# Altium schematic symbol library st-mpu.SchLib: 15 symbols (part 1 of 2)
Pins are listed as number, name and electrical type; pins without a type are passive.

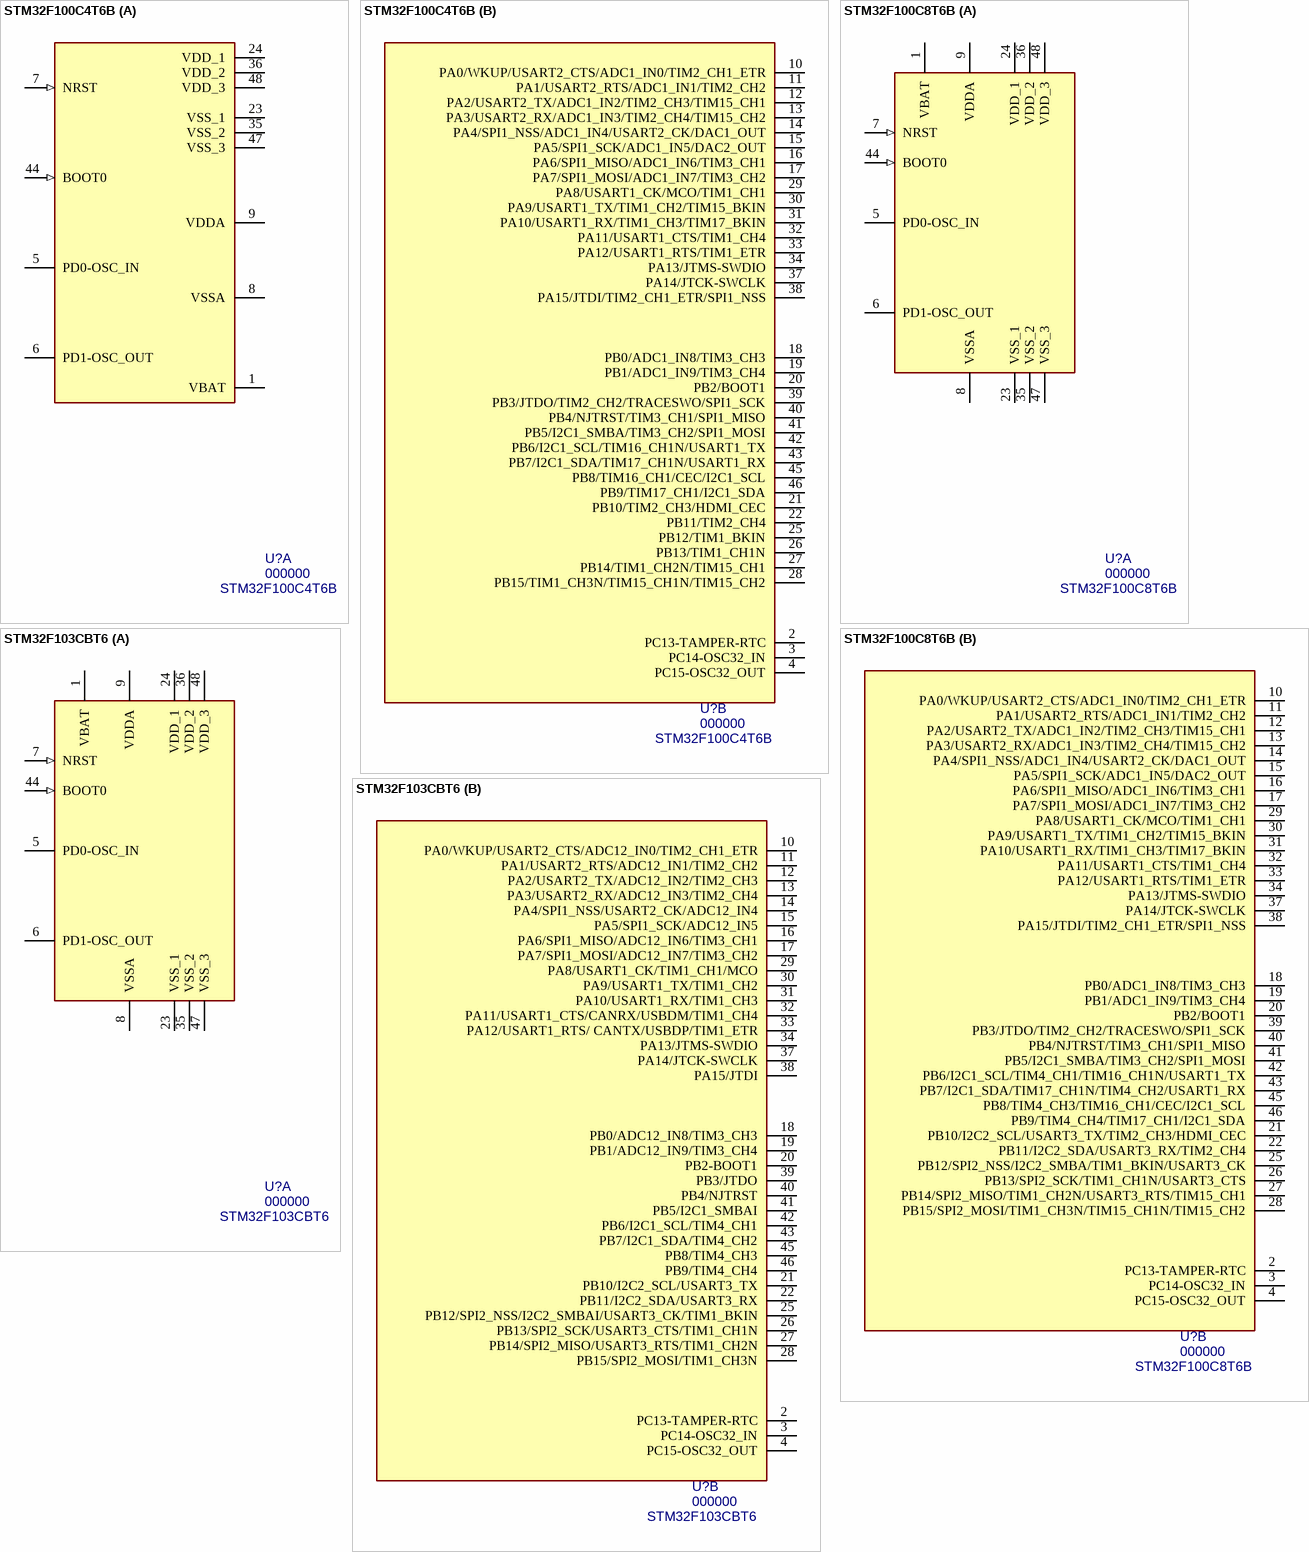
[diagram p0: symbols STM32F100C4T6B to STM32F103CBT6]

## STM32F100C4T6B
designator U?, comment 000000  value STM32F100C4T6B
ARM Cortex-M3,  32KB Flash, 4KB RAM; MF: STMicroelectronics; Package: LQFP48; PN: 000000; ExtraInfo: *; MF PN: STM32F100C4T6B
footprint LQFP48 (TSQFP, 48-Leads, Body 9.0x8.0mm (max), Pitch 0.50mm, IPC Medium Density)
part A pins: 1 VBAT (power), 5 PD0-OSC_IN (hiz), 6 PD1-OSC_OUT (hiz), 7 NRST (in), 8 VSSA (power), 9 VDDA (power), 23 VSS_1 (power), 24 VDD_1 (power), 35 VSS_2 (power), 36 VDD_2 (power), 44 BOOT0 (in), 47 VSS_3 (power), 48 VDD_3 (power)
part B pins: 2 PC13-TAMPER-RTC (hiz), 3 PC14-OSC32_IN (hiz), 4 PC15-OSC32_OUT (hiz), 10 PA0/WKUP/USART2_CTS/ADC1_IN0/TIM2_CH1_ETR (hiz), 11 PA1/USART2_RTS/ADC1_IN1/TIM2_CH2 (hiz), 12 PA2/USART2_TX/ADC1_IN2/TIM2_CH3/TIM15_CH1 (hiz), 13 PA3/USART2_RX/ADC1_IN3/TIM2_CH4/TIM15_CH2 (hiz), 14 PA4/SPI1_NSS/ADC1_IN4/USART2_CK/DAC1_OUT (hiz), 15 PA5/SPI1_SCK/ADC1_IN5/DAC2_OUT (hiz), 16 PA6/SPI1_MISO/ADC1_IN6/TIM3_CH1 (hiz), 17 PA7/SPI1_MOSI/ADC1_IN7/TIM3_CH2 (hiz), 18 PB0/ADC1_IN8/TIM3_CH3 (hiz), 19 PB1/ADC1_IN9/TIM3_CH4 (hiz), 20 PB2/BOOT1 (hiz), 21 PB10/TIM2_CH3/HDMI_CEC (hiz), 22 PB11/TIM2_CH4 (hiz), 25 PB12/TIM1_BKIN (hiz), 26 PB13/TIM1_CH1N (hiz), 27 PB14/TIM1_CH2N/TIM15_CH1 (hiz), 28 PB15/TIM1_CH3N/TIM15_CH1N/TIM15_CH2 (hiz), 29 PA8/USART1_CK/MCO/TIM1_CH1 (hiz), 30 PA9/USART1_TX/TIM1_CH2/TIM15_BKIN (hiz), 31 PA10/USART1_RX/TIM1_CH3/TIM17_BKIN (hiz), 32 PA11/USART1_CTS/TIM1_CH4 (hiz), 33 PA12/USART1_RTS/TIM1_ETR (hiz), 34 PA13/JTMS-SWDIO (hiz), 37 PA14/JTCK-SWCLK (hiz), 38 PA15/JTDI/TIM2_CH1_ETR/SPI1_NSS (hiz), 39 PB3/JTDO/TIM2_CH2/TRACESWO/SPI1_SCK (hiz), 40 PB4/NJTRST/TIM3_CH1/SPI1_MISO (hiz), 41 PB5/I2C1_SMBA/TIM3_CH2/SPI1_MOSI (hiz), 42 PB6/I2C1_SCL/TIM16_CH1N/USART1_TX (hiz), 43 PB7/I2C1_SDA/TIM17_CH1N/USART1_RX (hiz), 45 PB8/TIM16_CH1/CEC/I2C1_SCL (hiz), 46 PB9/TIM17_CH1/I2C1_SDA (hiz)

## STM32F100C8T6B
designator U?, comment 000000  value STM32F100C8T6B
ARM Cortex-M3,  64KB Flash, 8KB RAM; MF: STMicroelectronics; Package: LQFP48; PN: 000000; ExtraInfo: *; MF PN: STM32F100C8T6B
footprint LQFP48 (TSQFP, 48-Leads, Body 9.0x8.0mm (max), Pitch 0.50mm, IPC Medium Density)
part A pins: 1 VBAT (power), 5 PD0-OSC_IN (hiz), 6 PD1-OSC_OUT (hiz), 7 NRST (in), 8 VSSA (power), 9 VDDA (power), 23 VSS_1 (power), 24 VDD_1 (power), 35 VSS_2 (power), 36 VDD_2 (power), 44 BOOT0 (in), 47 VSS_3 (power), 48 VDD_3 (power)
part B pins: 2 PC13-TAMPER-RTC (hiz), 3 PC14-OSC32_IN (hiz), 4 PC15-OSC32_OUT (hiz), 10 PA0/WKUP/USART2_CTS/ADC1_IN0/TIM2_CH1_ETR (hiz), 11 PA1/USART2_RTS/ADC1_IN1/TIM2_CH2 (hiz), 12 PA2/USART2_TX/ADC1_IN2/TIM2_CH3/TIM15_CH1 (hiz), 13 PA3/USART2_RX/ADC1_IN3/TIM2_CH4/TIM15_CH2 (hiz), 14 PA4/SPI1_NSS/ADC1_IN4/USART2_CK/DAC1_OUT (hiz), 15 PA5/SPI1_SCK/ADC1_IN5/DAC2_OUT (hiz), 16 PA6/SPI1_MISO/ADC1_IN6/TIM3_CH1 (hiz), 17 PA7/SPI1_MOSI/ADC1_IN7/TIM3_CH2 (hiz), 18 PB0/ADC1_IN8/TIM3_CH3 (hiz), 19 PB1/ADC1_IN9/TIM3_CH4 (hiz), 20 PB2/BOOT1 (hiz), 21 PB10/I2C2_SCL/USART3_TX/TIM2_CH3/HDMI_CEC (hiz), 22 PB11/I2C2_SDA/USART3_RX/TIM2_CH4 (hiz), 25 PB12/SPI2_NSS/I2C2_SMBA/TIM1_BKIN/USART3_CK (hiz), 26 PB13/SPI2_SCK/TIM1_CH1N/USART3_CTS (hiz), 27 PB14/SPI2_MISO/TIM1_CH2N/USART3_RTS/TIM15_CH1 (hiz), 28 PB15/SPI2_MOSI/TIM1_CH3N/TIM15_CH1N/TIM15_CH2 (hiz), 29 PA8/USART1_CK/MCO/TIM1_CH1 (hiz), 30 PA9/USART1_TX/TIM1_CH2/TIM15_BKIN (hiz), 31 PA10/USART1_RX/TIM1_CH3/TIM17_BKIN (hiz), 32 PA11/USART1_CTS/TIM1_CH4 (hiz), 33 PA12/USART1_RTS/TIM1_ETR (hiz), 34 PA13/JTMS-SWDIO (hiz), 37 PA14/JTCK-SWCLK (hiz), 38 PA15/JTDI/TIM2_CH1_ETR/SPI1_NSS (hiz), 39 PB3/JTDO/TIM2_CH2/TRACESWO/SPI1_SCK (hiz), 40 PB4/NJTRST/TIM3_CH1/SPI1_MISO (hiz), 41 PB5/I2C1_SMBA/TIM3_CH2/SPI1_MOSI (hiz), 42 PB6/I2C1_SCL/TIM4_CH1/TIM16_CH1N/USART1_TX (hiz), 43 PB7/I2C1_SDA/TIM17_CH1N/TIM4_CH2/USART1_RX (hiz), 45 PB8/TIM4_CH3/TIM16_CH1/CEC/I2C1_SCL (hiz), 46 PB9/TIM4_CH4/TIM17_CH1/I2C1_SDA (hiz)

## STM32F103CBT6
designator U?, comment 000000  value STM32F103CBT6
ARM Cortex-M3,  128KB Flash, 20KB RAM; MF: STMicroelectronics; Package: LQFP48; PN: 000000; ExtraInfo: *; MF PN: STM32F103CBT6
footprint LQFP48 (TSQFP, 48-Leads, Body 9.0x8.0mm (max), Pitch 0.50mm, IPC Medium Density)
part A pins: 1 VBAT (power), 5 PD0-OSC_IN (hiz), 6 PD1-OSC_OUT (hiz), 7 NRST (in), 8 VSSA (power), 9 VDDA (power), 23 VSS_1 (power), 24 VDD_1 (power), 35 VSS_2 (power), 36 VDD_2 (power), 44 BOOT0 (in), 47 VSS_3 (power), 48 VDD_3 (power)
part B pins: 2 PC13-TAMPER-RTC (hiz), 3 PC14-OSC32_IN (hiz), 4 PC15-OSC32_OUT (hiz), 10 PA0/WKUP/USART2_CTS/ADC12_IN0/TIM2_CH1_ETR (hiz), 11 PA1/USART2_RTS/ADC12_IN1/TIM2_CH2 (hiz), 12 PA2/USART2_TX/ADC12_IN2/TIM2_CH3 (hiz), 13 PA3/USART2_RX/ADC12_IN3/TIM2_CH4 (hiz), 14 PA4/SPI1_NSS/USART2_CK/ADC12_IN4 (hiz), 15 PA5/SPI1_SCK/ADC12_IN5 (hiz), 16 PA6/SPI1_MISO/ADC12_IN6/TIM3_CH1 (hiz), 17 PA7/SPI1_MOSI/ADC12_IN7/TIM3_CH2 (hiz), 18 PB0/ADC12_IN8/TIM3_CH3 (hiz), 19 PB1/ADC12_IN9/TIM3_CH4 (hiz), 20 PB2-BOOT1 (hiz), 21 PB10/I2C2_SCL/USART3_TX (hiz), 22 PB11/I2C2_SDA/USART3_RX (hiz), 25 PB12/SPI2_NSS/I2C2_SMBAI/USART3_CK/TIM1_BKIN (hiz), 26 PB13/SPI2_SCK/USART3_CTS/TIM1_CH1N (hiz), 27 PB14/SPI2_MISO/USART3_RTS/TIM1_CH2N (hiz), 28 PB15/SPI2_MOSI/TIM1_CH3N (hiz), 29 PA8/USART1_CK/TIM1_CH1/MCO (hiz), 30 PA9/USART1_TX/TIM1_CH2 (hiz), 31 PA10/USART1_RX/TIM1_CH3 (hiz), 32 PA11/USART1_CTS/CANRX/USBDM/TIM1_CH4 (hiz), 33 PA12/USART1_RTS/ CANTX/USBDP/TIM1_ETR (hiz), 34 PA13/JTMS-SWDIO (hiz), 37 PA14/JTCK-SWCLK (hiz), 38 PA15/JTDI (hiz), 39 PB3/JTDO (hiz), 40 PB4/NJTRST (hiz), 41 PB5/I2C1_SMBAI (hiz), 42 PB6/I2C1_SCL/TIM4_CH1 (hiz), 43 PB7/I2C1_SDA/TIM4_CH2 (hiz), 45 PB8/TIM4_CH3 (hiz), 46 PB9/TIM4_CH4 (hiz)

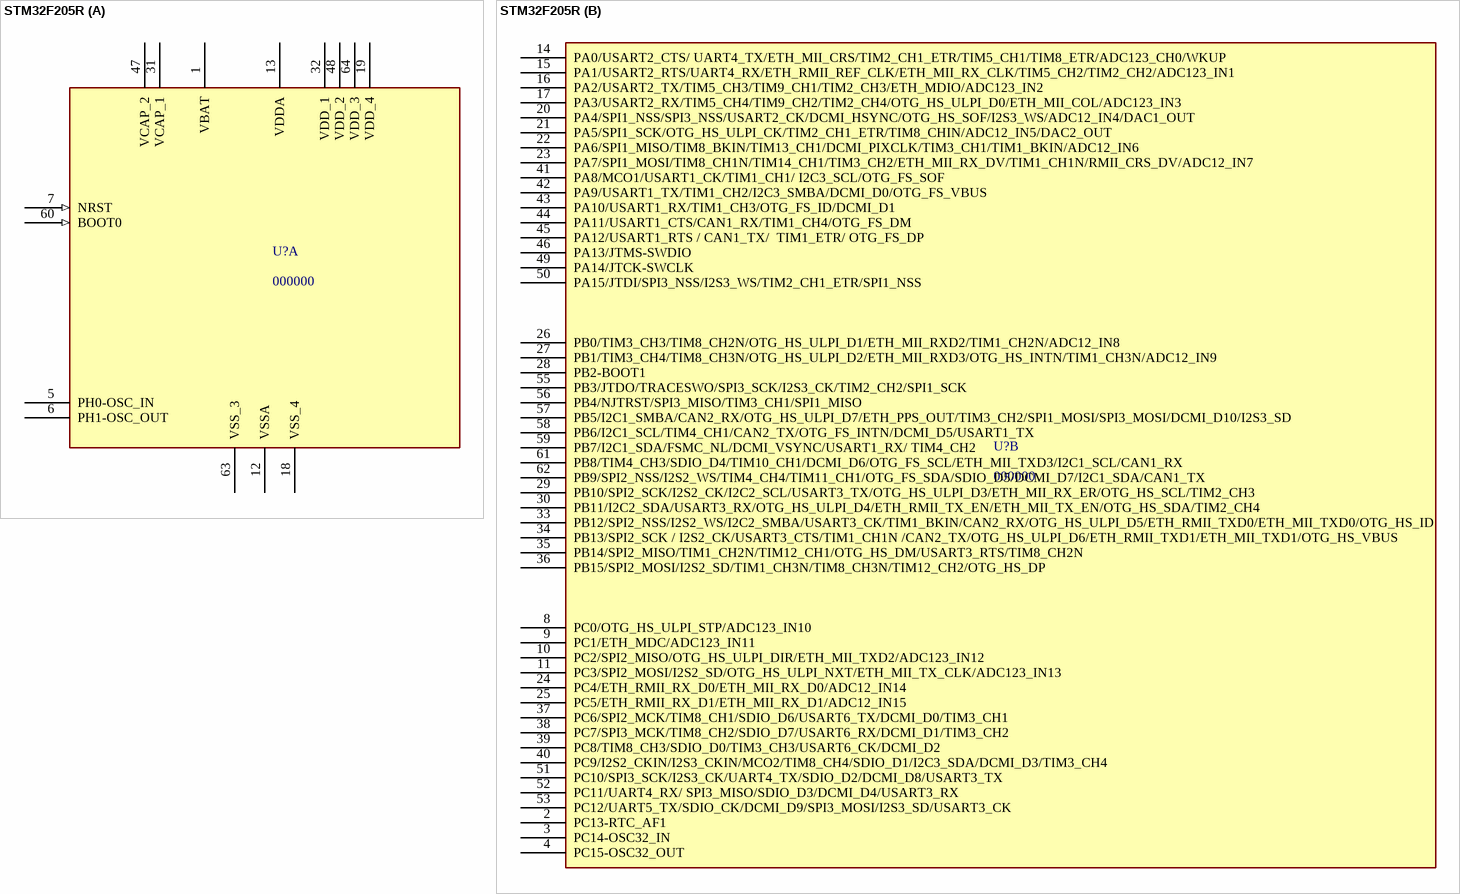
[diagram p1: symbol STM32F205R]

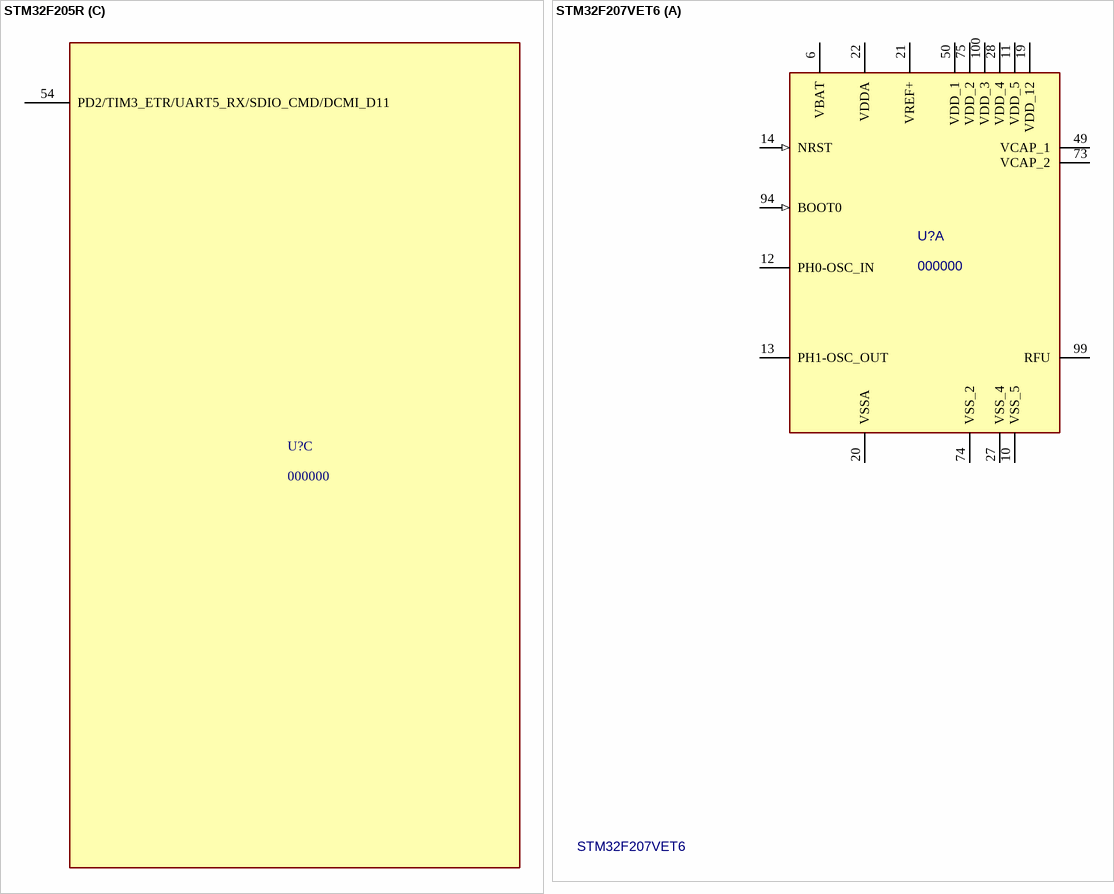
[diagram p2: symbols STM32F205R to STM32F207VET6]

## STM32F205R
designator U?, comment 000000
ARM Cortex-M3, 1MB Flash, 132KB RAM; Value: STM32F205R; MF: STMicroelectronics; MF PN: STM32F205RGT6; Package: LQFP64; PN: 000000; ExtraInfo: *
footprint LQFP48
part A pins: 1 VBAT (power), 5 PH0-OSC_IN (hiz), 6 PH1-OSC_OUT (hiz), 7 NRST (in), 12 VSSA (power), 13 VDDA (power), 18 VSS_4 (power), 19 VDD_4 (power), 31 VCAP_1 (power), 32 VDD_1 (power), 47 VCAP_2 (power), 48 VDD_2 (power), 60 BOOT0 (in), 63 VSS_3 (power), 64 VDD_3 (power)
part B pins: 2 PC13-RTC_AF1 (hiz), 3 PC14-OSC32_IN (hiz), 4 PC15-OSC32_OUT (hiz), 8 PC0/OTG_HS_ULPI_STP/ADC123_IN10 (hiz), 9 PC1/ETH_MDC/ADC123_IN11 (hiz), 10 PC2/SPI2_MISO/OTG_HS_ULPI_DIR/ETH_MII_TXD2/ADC123_IN12 (hiz), 11 PC3/SPI2_MOSI/I2S2_SD/OTG_HS_ULPI_NXT/ETH_MII_TX_CLK/ADC123_IN13 (hiz), 14 PA0/USART2_CTS/ UART4_TX/ETH_MII_CRS/TIM2_CH1_ETR/TIM5_CH1/TIM8_ETR/ADC123_CH0/WKUP (hiz), 15 PA1/USART2_RTS/UART4_RX/ETH_RMII_REF_CLK/ETH_MII_RX_CLK/TIM5_CH2/TIM2_CH2/ADC123_IN1 (hiz), 16 PA2/USART2_TX/TIM5_CH3/TIM9_CH1/TIM2_CH3/ETH_MDIO/ADC123_IN2 (hiz), 17 PA3/USART2_RX/TIM5_CH4/TIM9_CH2/TIM2_CH4/OTG_HS_ULPI_D0/ETH_MII_COL/ADC123_IN3 (hiz), 20 PA4/SPI1_NSS/SPI3_NSS/USART2_CK/DCMI_HSYNC/OTG_HS_SOF/I2S3_WS/ADC12_IN4/DAC1_OUT (hiz), 21 PA5/SPI1_SCK/OTG_HS_ULPI_CK/TIM2_CH1_ETR/TIM8_CHIN/ADC12_IN5/DAC2_OUT (hiz), 22 PA6/SPI1_MISO/TIM8_BKIN/TIM13_CH1/DCMI_PIXCLK/TIM3_CH1/TIM1_BKIN/ADC12_IN6 (hiz), 23 PA7/SPI1_MOSI/TIM8_CH1N/TIM14_CH1/TIM3_CH2/ETH_MII_RX_DV/TIM1_CH1N/RMII_CRS_DV/ADC12_IN7 (hiz), 24 PC4/ETH_RMII_RX_D0/ETH_MII_RX_D0/ADC12_IN14 (hiz), 25 PC5/ETH_RMII_RX_D1/ETH_MII_RX_D1/ADC12_IN15 (hiz), 26 PB0/TIM3_CH3/TIM8_CH2N/OTG_HS_ULPI_D1/ETH_MII_RXD2/TIM1_CH2N/ADC12_IN8 (hiz), 27 PB1/TIM3_CH4/TIM8_CH3N/OTG_HS_ULPI_D2/ETH_MII_RXD3/OTG_HS_INTN/TIM1_CH3N/ADC12_IN9 (hiz), 28 PB2-BOOT1 (hiz), 29 PB10/SPI2_SCK/I2S2_CK/I2C2_SCL/USART3_TX/OTG_HS_ULPI_D3/ETH_MII_RX_ER/OTG_HS_SCL/TIM2_CH3 (hiz), 30 PB11/I2C2_SDA/USART3_RX/OTG_HS_ULPI_D4/ETH_RMII_TX_EN/ETH_MII_TX_EN/OTG_HS_SDA/TIM2_CH4 (hiz), 33 PB12/SPI2_NSS/I2S2_WS/I2C2_SMBA/USART3_CK/TIM1_BKIN/CAN2_RX/OTG_HS_ULPI_D5/ETH_RMII_TXD0/ETH_MII_TXD0/OTG_HS_ID (hiz), 34 PB13/SPI2_SCK / I2S2_CK/USART3_CTS/TIM1_CH1N /CAN2_TX/OTG_HS_ULPI_D6/ETH_RMII_TXD1/ETH_MII_TXD1/OTG_HS_VBUS (hiz), 35 PB14/SPI2_MISO/TIM1_CH2N/TIM12_CH1/OTG_HS_DM/USART3_RTS/TIM8_CH2N (hiz), 36 PB15/SPI2_MOSI/I2S2_SD/TIM1_CH3N/TIM8_CH3N/TIM12_CH2/OTG_HS_DP (hiz), 37 PC6/SPI2_MCK/TIM8_CH1/SDIO_D6/USART6_TX/DCMI_D0/TIM3_CH1 (hiz), 38 PC7/SPI3_MCK/TIM8_CH2/SDIO_D7/USART6_RX/DCMI_D1/TIM3_CH2 (hiz), 39 PC8/TIM8_CH3/SDIO_D0/TIM3_CH3/USART6_CK/DCMI_D2 (hiz), 40 PC9/I2S2_CKIN/I2S3_CKIN/MCO2/TIM8_CH4/SDIO_D1/I2C3_SDA/DCMI_D3/TIM3_CH4 (hiz), 41 PA8/MCO1/USART1_CK/TIM1_CH1/ I2C3_SCL/OTG_FS_SOF (hiz), 42 PA9/USART1_TX/TIM1_CH2/I2C3_SMBA/DCMI_D0/OTG_FS_VBUS (hiz), 43 PA10/USART1_RX/TIM1_CH3/OTG_FS_ID/DCMI_D1 (hiz), 44 PA11/USART1_CTS/CAN1_RX/TIM1_CH4/OTG_FS_DM (hiz), 45 PA12/USART1_RTS / CAN1_TX/  TIM1_ETR/ OTG_FS_DP (hiz), 46 PA13/JTMS-SWDIO (hiz), 49 PA14/JTCK-SWCLK (hiz), 50 PA15/JTDI/SPI3_NSS/I2S3_WS/TIM2_CH1_ETR/SPI1_NSS (hiz), 51 PC10/SPI3_SCK/I2S3_CK/UART4_TX/SDIO_D2/DCMI_D8/USART3_TX (hiz), 52 PC11/UART4_RX/ SPI3_MISO/SDIO_D3/DCMI_D4/USART3_RX (hiz), 53 PC12/UART5_TX/SDIO_CK/DCMI_D9/SPI3_MOSI/I2S3_SD/USART3_CK (hiz), 55 PB3/JTDO/TRACESWO/SPI3_SCK/I2S3_CK/TIM2_CH2/SPI1_SCK (hiz), 56 PB4/NJTRST/SPI3_MISO/TIM3_CH1/SPI1_MISO (hiz), 57 PB5/I2C1_SMBA/CAN2_RX/OTG_HS_ULPI_D7/ETH_PPS_OUT/TIM3_CH2/SPI1_MOSI/SPI3_MOSI/DCMI_D10/I2S3_SD (hiz), 58 PB6/I2C1_SCL/TIM4_CH1/CAN2_TX/OTG_FS_INTN/DCMI_D5/USART1_TX (hiz), 59 PB7/I2C1_SDA/FSMC_NL/DCMI_VSYNC/USART1_RX/ TIM4_CH2 (hiz), 61 PB8/TIM4_CH3/SDIO_D4/TIM10_CH1/DCMI_D6/OTG_FS_SCL/ETH_MII_TXD3/I2C1_SCL/CAN1_RX (hiz), 62 PB9/SPI2_NSS/I2S2_WS/TIM4_CH4/TIM11_CH1/OTG_FS_SDA/SDIO_D5/DCMI_D7/I2C1_SDA/CAN1_TX (hiz)
part C pins: 54 PD2/TIM3_ETR/UART5_RX/SDIO_CMD/DCMI_D11 (hiz)

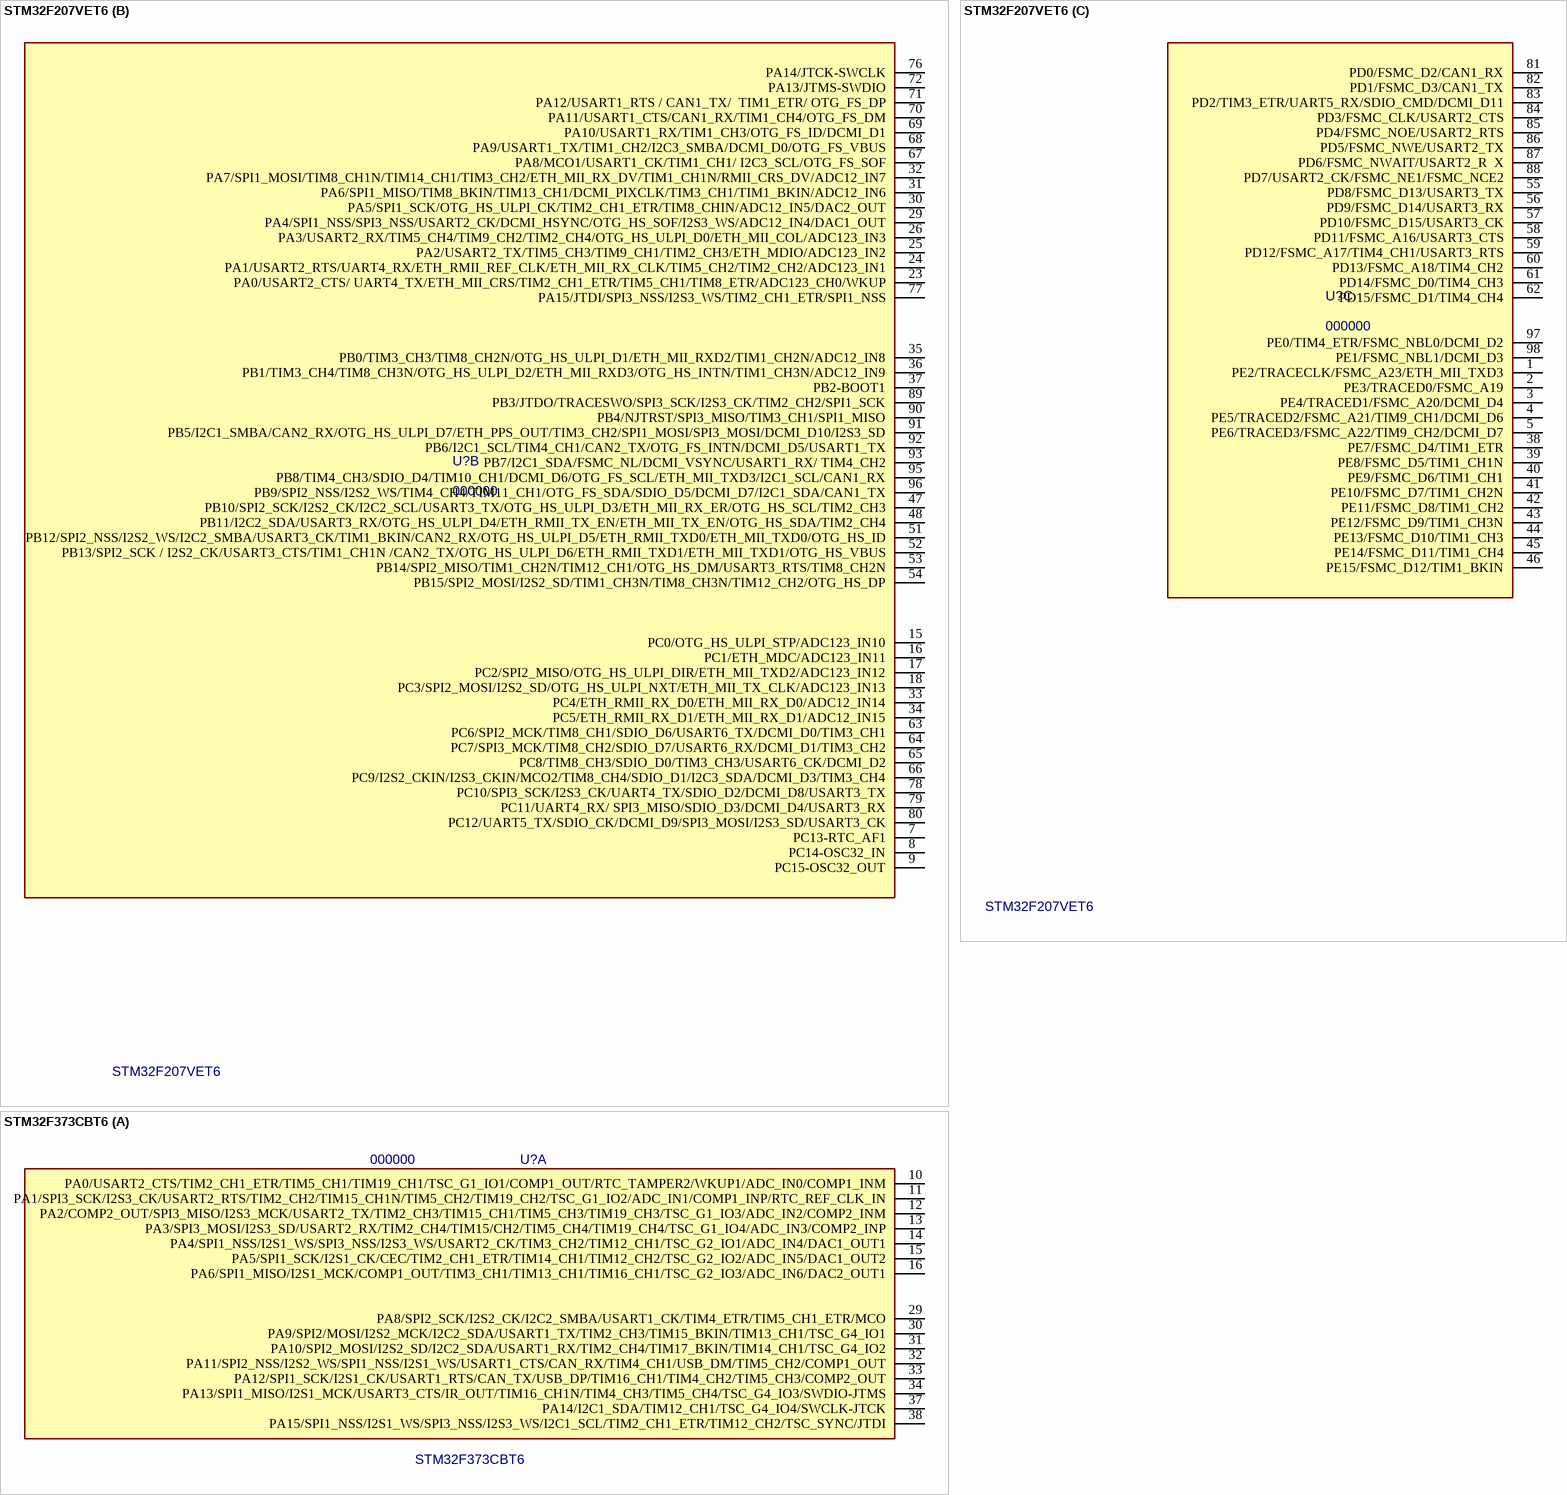
[diagram p3: symbols STM32F207VET6 to STM32F373CBT6]

## STM32F207VET6
designator U?, comment 000000  value STM32F207VET6
ARM Cortex-M3, 512KB Flash, 132KB RAM; MF: STMicroelectronics; Package: LQFP100; PN: 000000; ExtraInfo: *; MF PN: STM32F207VET6
footprint LQFP100 (TSQFP, 100-Leads, Body 16.2x16.2mm (max), Pitch 0.50mm, IPC High Density)
part A pins: 6 VBAT (power), 10 VSS_5 (power), 11 VDD_5 (power), 12 PH0-OSC_IN (hiz), 13 PH1-OSC_OUT (hiz), 14 NRST (in), 19 VDD_12 (power), 20 VSSA (power), 21 VREF+ (power), 22 VDDA (power), 27 VSS_4 (power), 28 VDD_4 (power), 49 VCAP_1 (power), 50 VDD_1 (power), 73 VCAP_2 (power), 74 VSS_2 (power), 75 VDD_2 (power), 94 BOOT0 (in), 99 RFU "Reserved for Future Use", 100 VDD_3 (power)
part B pins: 7 PC13-RTC_AF1 (hiz), 8 PC14-OSC32_IN (hiz), 9 PC15-OSC32_OUT (hiz), 15 PC0/OTG_HS_ULPI_STP/ADC123_IN10 (hiz), 16 PC1/ETH_MDC/ADC123_IN11 (hiz), 17 PC2/SPI2_MISO/OTG_HS_ULPI_DIR/ETH_MII_TXD2/ADC123_IN12 (hiz), 18 PC3/SPI2_MOSI/I2S2_SD/OTG_HS_ULPI_NXT/ETH_MII_TX_CLK/ADC123_IN13 (hiz), 23 PA0/USART2_CTS/ UART4_TX/ETH_MII_CRS/TIM2_CH1_ETR/TIM5_CH1/TIM8_ETR/ADC123_CH0/WKUP (hiz), 24 PA1/USART2_RTS/UART4_RX/ETH_RMII_REF_CLK/ETH_MII_RX_CLK/TIM5_CH2/TIM2_CH2/ADC123_IN1 (hiz), 25 PA2/USART2_TX/TIM5_CH3/TIM9_CH1/TIM2_CH3/ETH_MDIO/ADC123_IN2 (hiz), 26 PA3/USART2_RX/TIM5_CH4/TIM9_CH2/TIM2_CH4/OTG_HS_ULPI_D0/ETH_MII_COL/ADC123_IN3 (hiz), 29 PA4/SPI1_NSS/SPI3_NSS/USART2_CK/DCMI_HSYNC/OTG_HS_SOF/I2S3_WS/ADC12_IN4/DAC1_OUT (hiz), 30 PA5/SPI1_SCK/OTG_HS_ULPI_CK/TIM2_CH1_ETR/TIM8_CHIN/ADC12_IN5/DAC2_OUT (hiz), 31 PA6/SPI1_MISO/TIM8_BKIN/TIM13_CH1/DCMI_PIXCLK/TIM3_CH1/TIM1_BKIN/ADC12_IN6 (hiz), 32 PA7/SPI1_MOSI/TIM8_CH1N/TIM14_CH1/TIM3_CH2/ETH_MII_RX_DV/TIM1_CH1N/RMII_CRS_DV/ADC12_IN7 (hiz), 33 PC4/ETH_RMII_RX_D0/ETH_MII_RX_D0/ADC12_IN14 (hiz), 34 PC5/ETH_RMII_RX_D1/ETH_MII_RX_D1/ADC12_IN15 (hiz), 35 PB0/TIM3_CH3/TIM8_CH2N/OTG_HS_ULPI_D1/ETH_MII_RXD2/TIM1_CH2N/ADC12_IN8 (hiz), 36 PB1/TIM3_CH4/TIM8_CH3N/OTG_HS_ULPI_D2/ETH_MII_RXD3/OTG_HS_INTN/TIM1_CH3N/ADC12_IN9 (hiz), 37 PB2-BOOT1 (hiz), 47 PB10/SPI2_SCK/I2S2_CK/I2C2_SCL/USART3_TX/OTG_HS_ULPI_D3/ETH_MII_RX_ER/OTG_HS_SCL/TIM2_CH3 (hiz), 48 PB11/I2C2_SDA/USART3_RX/OTG_HS_ULPI_D4/ETH_RMII_TX_EN/ETH_MII_TX_EN/OTG_HS_SDA/TIM2_CH4 (hiz), 51 PB12/SPI2_NSS/I2S2_WS/I2C2_SMBA/USART3_CK/TIM1_BKIN/CAN2_RX/OTG_HS_ULPI_D5/ETH_RMII_TXD0/ETH_MII_TXD0/OTG_HS_ID (hiz), 52 PB13/SPI2_SCK / I2S2_CK/USART3_CTS/TIM1_CH1N /CAN2_TX/OTG_HS_ULPI_D6/ETH_RMII_TXD1/ETH_MII_TXD1/OTG_HS_VBUS (hiz), 53 PB14/SPI2_MISO/TIM1_CH2N/TIM12_CH1/OTG_HS_DM/USART3_RTS/TIM8_CH2N (hiz), 54 PB15/SPI2_MOSI/I2S2_SD/TIM1_CH3N/TIM8_CH3N/TIM12_CH2/OTG_HS_DP (hiz), 63 PC6/SPI2_MCK/TIM8_CH1/SDIO_D6/USART6_TX/DCMI_D0/TIM3_CH1 (hiz), 64 PC7/SPI3_MCK/TIM8_CH2/SDIO_D7/USART6_RX/DCMI_D1/TIM3_CH2 (hiz), 65 PC8/TIM8_CH3/SDIO_D0/TIM3_CH3/USART6_CK/DCMI_D2 (hiz), 66 PC9/I2S2_CKIN/I2S3_CKIN/MCO2/TIM8_CH4/SDIO_D1/I2C3_SDA/DCMI_D3/TIM3_CH4 (hiz), 67 PA8/MCO1/USART1_CK/TIM1_CH1/ I2C3_SCL/OTG_FS_SOF (hiz), 68 PA9/USART1_TX/TIM1_CH2/I2C3_SMBA/DCMI_D0/OTG_FS_VBUS (hiz), 69 PA10/USART1_RX/TIM1_CH3/OTG_FS_ID/DCMI_D1 (hiz), 70 PA11/USART1_CTS/CAN1_RX/TIM1_CH4/OTG_FS_DM (hiz), 71 PA12/USART1_RTS / CAN1_TX/  TIM1_ETR/ OTG_FS_DP (hiz), 72 PA13/JTMS-SWDIO (hiz), 76 PA14/JTCK-SWCLK (hiz), 77 PA15/JTDI/SPI3_NSS/I2S3_WS/TIM2_CH1_ETR/SPI1_NSS (hiz), 78 PC10/SPI3_SCK/I2S3_CK/UART4_TX/SDIO_D2/DCMI_D8/USART3_TX (hiz), 79 PC11/UART4_RX/ SPI3_MISO/SDIO_D3/DCMI_D4/USART3_RX (hiz), 80 PC12/UART5_TX/SDIO_CK/DCMI_D9/SPI3_MOSI/I2S3_SD/USART3_CK (hiz), 89 PB3/JTDO/TRACESWO/SPI3_SCK/I2S3_CK/TIM2_CH2/SPI1_SCK (hiz), 90 PB4/NJTRST/SPI3_MISO/TIM3_CH1/SPI1_MISO (hiz), 91 PB5/I2C1_SMBA/CAN2_RX/OTG_HS_ULPI_D7/ETH_PPS_OUT/TIM3_CH2/SPI1_MOSI/SPI3_MOSI/DCMI_D10/I2S3_SD (hiz), 92 PB6/I2C1_SCL/TIM4_CH1/CAN2_TX/OTG_FS_INTN/DCMI_D5/USART1_TX (hiz), 93 PB7/I2C1_SDA/FSMC_NL/DCMI_VSYNC/USART1_RX/ TIM4_CH2 (hiz), 95 PB8/TIM4_CH3/SDIO_D4/TIM10_CH1/DCMI_D6/OTG_FS_SCL/ETH_MII_TXD3/I2C1_SCL/CAN1_RX (hiz), 96 PB9/SPI2_NSS/I2S2_WS/TIM4_CH4/TIM11_CH1/OTG_FS_SDA/SDIO_D5/DCMI_D7/I2C1_SDA/CAN1_TX (hiz)
part C pins: 1 PE2/TRACECLK/FSMC_A23/ETH_MII_TXD3 (hiz), 2 PE3/TRACED0/FSMC_A19 (hiz), 3 PE4/TRACED1/FSMC_A20/DCMI_D4 (hiz), 4 PE5/TRACED2/FSMC_A21/TIM9_CH1/DCMI_D6 (hiz), 5 PE6/TRACED3/FSMC_A22/TIM9_CH2/DCMI_D7 (hiz), 38 PE7/FSMC_D4/TIM1_ETR (hiz), 39 PE8/FSMC_D5/TIM1_CH1N (hiz), 40 PE9/FSMC_D6/TIM1_CH1 (hiz), 41 PE10/FSMC_D7/TIM1_CH2N (hiz), 42 PE11/FSMC_D8/TIM1_CH2 (hiz), 43 PE12/FSMC_D9/TIM1_CH3N (hiz), 44 PE13/FSMC_D10/TIM1_CH3 (hiz), 45 PE14/FSMC_D11/TIM1_CH4 (hiz), 46 PE15/FSMC_D12/TIM1_BKIN (hiz), 55 PD8/FSMC_D13/USART3_TX (hiz), 56 PD9/FSMC_D14/USART3_RX (hiz), 57 PD10/FSMC_D15/USART3_CK (hiz), 58 PD11/FSMC_A16/USART3_CTS (hiz), 59 PD12/FSMC_A17/TIM4_CH1/USART3_RTS (hiz), 60 PD13/FSMC_A18/TIM4_CH2 (hiz), 61 PD14/FSMC_D0/TIM4_CH3 (hiz), 62 PD15/FSMC_D1/TIM4_CH4 (hiz), 81 PD0/FSMC_D2/CAN1_RX (hiz), 82 PD1/FSMC_D3/CAN1_TX (hiz), 83 PD2/TIM3_ETR/UART5_RX/SDIO_CMD/DCMI_D11 (hiz), 84 PD3/FSMC_CLK/USART2_CTS (hiz), 85 PD4/FSMC_NOE/USART2_RTS (hiz), 86 PD5/FSMC_NWE/USART2_TX (hiz), 87 PD6/FSMC_NWAIT/USART2_R  X (hiz), 88 PD7/USART2_CK/FSMC_NE1/FSMC_NCE2 (hiz), 97 PE0/TIM4_ETR/FSMC_NBL0/DCMI_D2 (hiz), 98 PE1/FSMC_NBL1/DCMI_D3 (hiz)

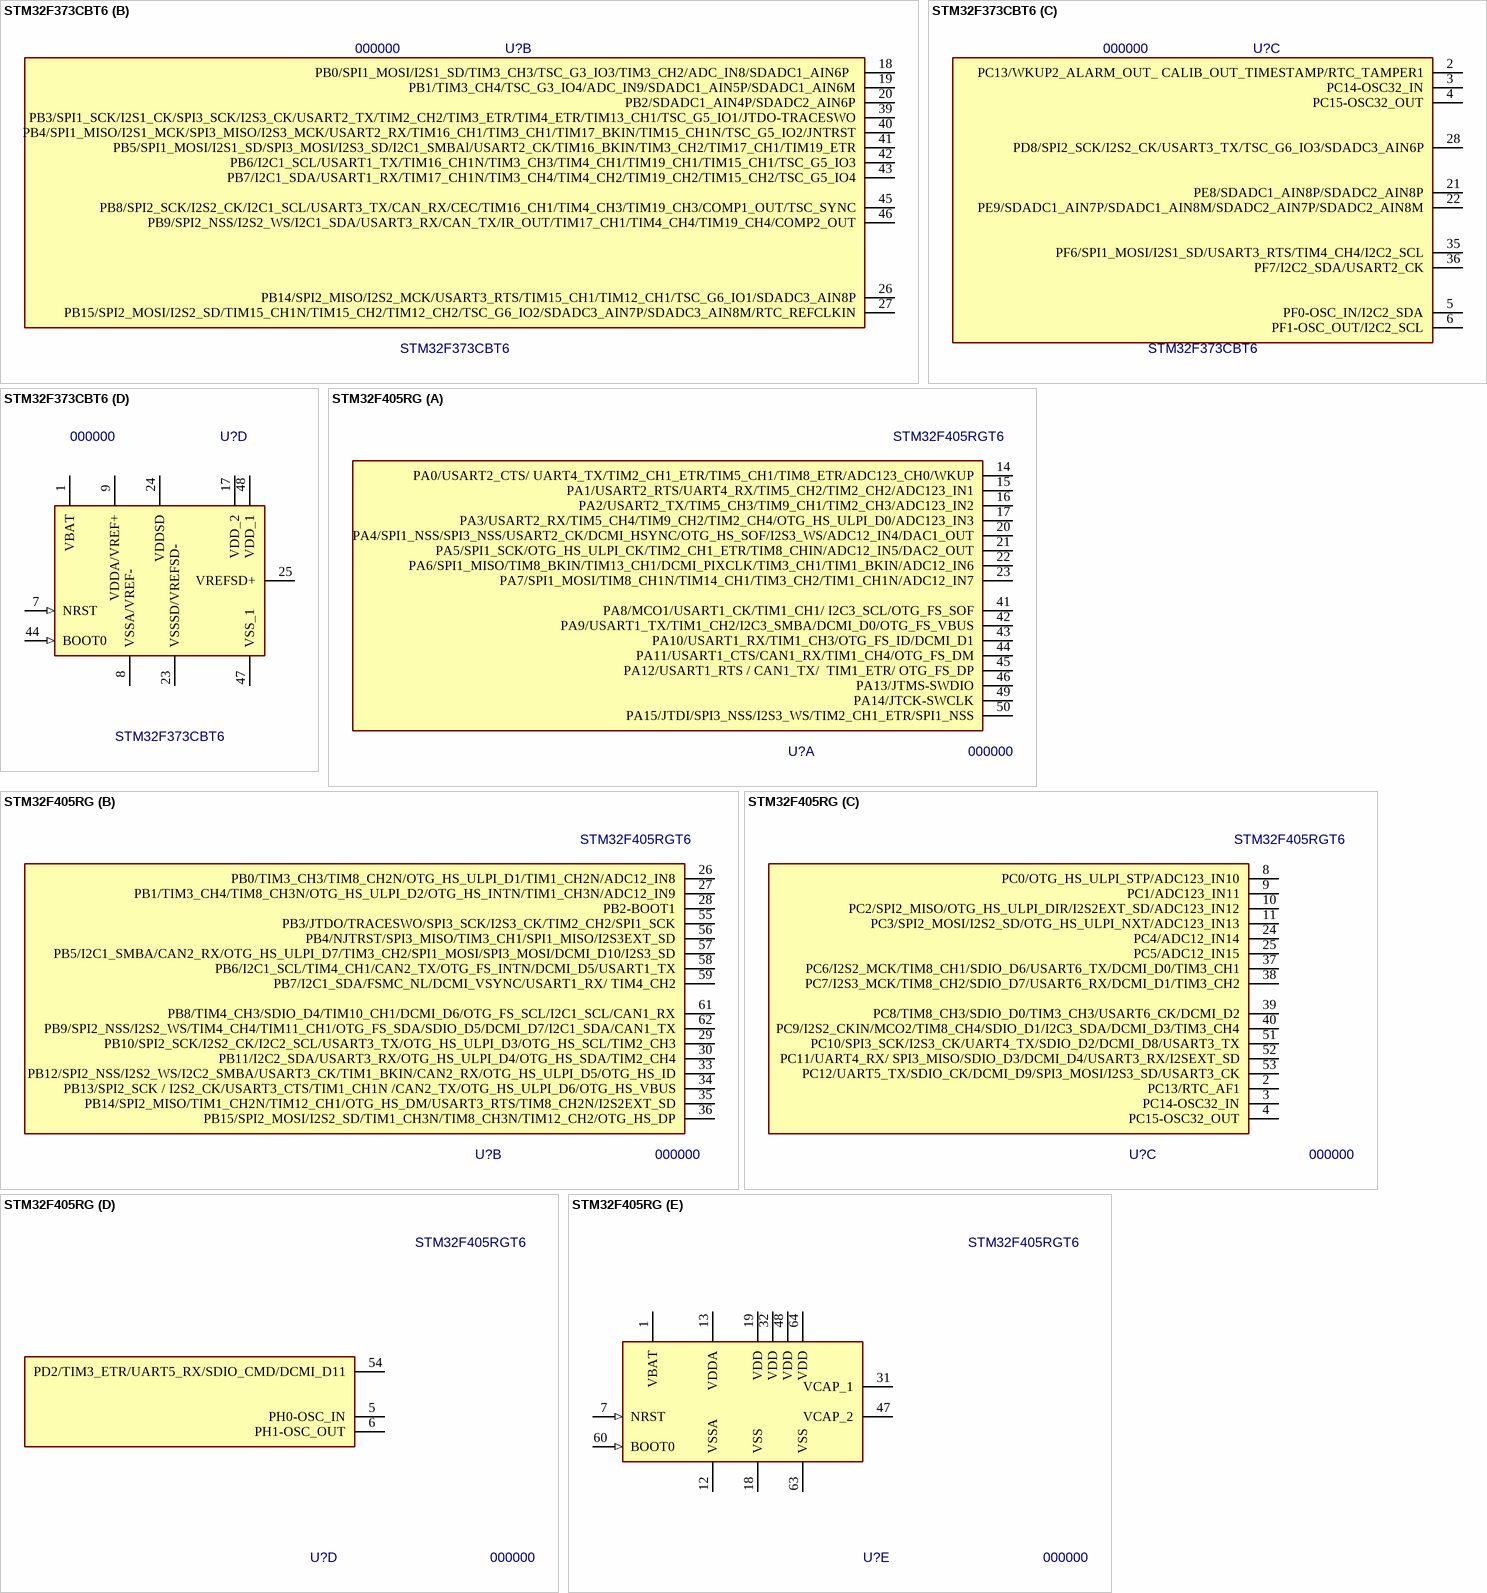
[diagram p4: symbols STM32F373CBT6 to STM32F405RG]

## STM32F373CBT6
designator U?, comment 000000  value STM32F373CBT6
ARM Cortex-M3,  128KB Flash, 24KB RAM; MF: STMicroelectronics; Package: LQFP48; PN: 000000; ExtraInfo: *; MF PN: STM32F373CBT6
footprint LQFP48 (TSQFP, 48-Leads, Body 9.0x8.0mm (max), Pitch 0.50mm, IPC Medium Density)
part A pins: 10 PA0/USART2_CTS/TIM2_CH1_ETR/TIM5_CH1/TIM19_CH1/TSC_G1_IO1/COMP1_OUT/RTC_TAMPER2/WKUP1/ADC_IN0/COMP1_INM (hiz), 11 PA1/SPI3_SCK/I2S3_CK/USART2_RTS/TIM2_CH2/TIM15_CH1N/TIM5_CH2/TIM19_CH2/TSC_G1_IO2/ADC_IN1/COMP1_INP/RTC_REF_CLK_IN (hiz), 12 PA2/COMP2_OUT/SPI3_MISO/I2S3_MCK/USART2_TX/TIM2_CH3/TIM15_CH1/TIM5_CH3/TIM19_CH3/TSC_G1_IO3/ADC_IN2/COMP2_INM (hiz), 13 PA3/SPI3_MOSI/I2S3_SD/USART2_RX/TIM2_CH4/TIM15/CH2/TIM5_CH4/TIM19_CH4/TSC_G1_IO4/ADC_IN3/COMP2_INP (hiz), 14 PA4/SPI1_NSS/I2S1_WS/SPI3_NSS/I2S3_WS/USART2_CK/TIM3_CH2/TIM12_CH1/TSC_G2_IO1/ADC_IN4/DAC1_OUT1 (hiz), 15 PA5/SPI1_SCK/I2S1_CK/CEC/TIM2_CH1_ETR/TIM14_CH1/TIM12_CH2/TSC_G2_IO2/ADC_IN5/DAC1_OUT2 (hiz), 16 PA6/SPI1_MISO/I2S1_MCK/COMP1_OUT/TIM3_CH1/TIM13_CH1/TIM16_CH1/TSC_G2_IO3/ADC_IN6/DAC2_OUT1 (hiz), 29 PA8/SPI2_SCK/I2S2_CK/I2C2_SMBA/USART1_CK/TIM4_ETR/TIM5_CH1_ETR/MCO (hiz), 30 PA9/SPI2/MOSI/I2S2_MCK/I2C2_SDA/USART1_TX/TIM2_CH3/TIM15_BKIN/TIM13_CH1/TSC_G4_IO1 (hiz), 31 PA10/SPI2_MOSI/I2S2_SD/I2C2_SDA/USART1_RX/TIM2_CH4/TIM17_BKIN/TIM14_CH1/TSC_G4_IO2 (hiz), 32 PA11/SPI2_NSS/I2S2_WS/SPI1_NSS/I2S1_WS/USART1_CTS/CAN_RX/TIM4_CH1/USB_DM/TIM5_CH2/COMP1_OUT (hiz), 33 PA12/SPI1_SCK/I2S1_CK/USART1_RTS/CAN_TX/USB_DP/TIM16_CH1/TIM4_CH2/TIM5_CH3/COMP2_OUT (hiz), 34 PA13/SPI1_MISO/I2S1_MCK/USART3_CTS/IR_OUT/TIM16_CH1N/TIM4_CH3/TIM5_CH4/TSC_G4_IO3/SWDIO-JTMS (hiz), 37 PA14/I2C1_SDA/TIM12_CH1/TSC_G4_IO4/SWCLK-JTCK (hiz), 38 PA15/SPI1_NSS/I2S1_WS/SPI3_NSS/I2S3_WS/I2C1_SCL/TIM2_CH1_ETR/TIM12_CH2/TSC_SYNC/JTDI (hiz)
part B pins: 18 PB0/SPI1_MOSI/I2S1_SD/TIM3_CH3/TSC_G3_IO3/TIM3_CH2/ADC_IN8/SDADC1_AIN6P   (hiz), 19 PB1/TIM3_CH4/TSC_G3_IO4/ADC_IN9/SDADC1_AIN5P/SDADC1_AIN6M (hiz), 20 PB2/SDADC1_AIN4P/SDADC2_AIN6P (hiz), 26 PB14/SPI2_MISO/I2S2_MCK/USART3_RTS/TIM15_CH1/TIM12_CH1/TSC_G6_IO1/SDADC3_AIN8P (hiz), 27 PB15/SPI2_MOSI/I2S2_SD/TIM15_CH1N/TIM15_CH2/TIM12_CH2/TSC_G6_IO2/SDADC3_AIN7P/SDADC3_AIN8M/RTC_REFCLKIN (hiz), 39 PB3/SPI1_SCK/I2S1_CK/SPI3_SCK/I2S3_CK/USART2_TX/TIM2_CH2/TIM3_ETR/TIM4_ETR/TIM13_CH1/TSC_G5_IO1/JTDO-TRACESWO (hiz), 40 PB4/SPI1_MISO/I2S1_MCK/SPI3_MISO/I2S3_MCK/USART2_RX/TIM16_CH1/TIM3_CH1/TIM17_BKIN/TIM15_CH1N/TSC_G5_IO2/JNTRST (hiz), 41 PB5/SPI1_MOSI/I2S1_SD/SPI3_MOSI/I2S3_SD/I2C1_SMBAl/USART2_CK/TIM16_BKIN/TIM3_CH2/TIM17_CH1/TIM19_ETR (hiz), 42 PB6/I2C1_SCL/USART1_TX/TIM16_CH1N/TIM3_CH3/TIM4_CH1/TIM19_CH1/TIM15_CH1/TSC_G5_IO3 (hiz), 43 PB7/I2C1_SDA/USART1_RX/TIM17_CH1N/TIM3_CH4/TIM4_CH2/TIM19_CH2/TIM15_CH2/TSC_G5_IO4 (hiz), 45 PB8/SPI2_SCK/I2S2_CK/I2C1_SCL/USART3_TX/CAN_RX/CEC/TIM16_CH1/TIM4_CH3/TIM19_CH3/COMP1_OUT/TSC_SYNC (hiz), 46 PB9/SPI2_NSS/I2S2_WS/I2C1_SDA/USART3_RX/CAN_TX/IR_OUT/TIM17_CH1/TIM4_CH4/TIM19_CH4/COMP2_OUT (hiz)
part C pins: 2 PC13/WKUP2_ALARM_OUT_ CALIB_OUT_TIMESTAMP/RTC_TAMPER1 (hiz), 3 PC14-OSC32_IN (hiz), 4 PC15-OSC32_OUT (hiz), 5 PF0-OSC_IN/I2C2_SDA (hiz), 6 PF1-OSC_OUT/I2C2_SCL (hiz), 21 PE8/SDADC1_AIN8P/SDADC2_AIN8P, 22 PE9/SDADC1_AIN7P/SDADC1_AIN8M/SDADC2_AIN7P/SDADC2_AIN8M, 28 PD8/SPI2_SCK/I2S2_CK/USART3_TX/TSC_G6_IO3/SDADC3_AIN6P (hiz), 35 PF6/SPI1_MOSI/I2S1_SD/USART3_RTS/TIM4_CH4/I2C2_SCL (hiz), 36 PF7/I2C2_SDA/USART2_CK (hiz)
part D pins: 1 VBAT (power), 7 NRST (in), 8 VSSA/VREF- (power), 9 VDDA/VREF+ (power), 17 VDD_2 (power), 23 VSSSD/VREFSD- (power), 24 VDDSD (power), 25 VREFSD+ (power), 44 BOOT0 (in), 47 VSS_1 (power), 48 VDD_1 (power)

## STM32F405RG
designator U?, comment 000000  value STM32F405RGT6
ARM Cortex-M4, 1MB Flash, 192KB RAM; MF: STMicroelectronics; MF PN: STM32F405RG; Package: LQFP64; PN: 000000; ExtraInfo: *
footprint LQFP64 (TSQFP, 64-Leads, Body 12.0x12.0mm (max), Pitch 0.50mm, IPC Medium Density)
part A pins: 14 PA0/USART2_CTS/ UART4_TX/TIM2_CH1_ETR/TIM5_CH1/TIM8_ETR/ADC123_CH0/WKUP (hiz), 15 PA1/USART2_RTS/UART4_RX/TIM5_CH2/TIM2_CH2/ADC123_IN1 (hiz), 16 PA2/USART2_TX/TIM5_CH3/TIM9_CH1/TIM2_CH3/ADC123_IN2 (hiz), 17 PA3/USART2_RX/TIM5_CH4/TIM9_CH2/TIM2_CH4/OTG_HS_ULPI_D0/ADC123_IN3 (hiz), 20 PA4/SPI1_NSS/SPI3_NSS/USART2_CK/DCMI_HSYNC/OTG_HS_SOF/I2S3_WS/ADC12_IN4/DAC1_OUT (hiz), 21 PA5/SPI1_SCK/OTG_HS_ULPI_CK/TIM2_CH1_ETR/TIM8_CHIN/ADC12_IN5/DAC2_OUT (hiz), 22 PA6/SPI1_MISO/TIM8_BKIN/TIM13_CH1/DCMI_PIXCLK/TIM3_CH1/TIM1_BKIN/ADC12_IN6 (hiz), 23 PA7/SPI1_MOSI/TIM8_CH1N/TIM14_CH1/TIM3_CH2/TIM1_CH1N/ADC12_IN7 (hiz), 41 PA8/MCO1/USART1_CK/TIM1_CH1/ I2C3_SCL/OTG_FS_SOF (hiz), 42 PA9/USART1_TX/TIM1_CH2/I2C3_SMBA/DCMI_D0/OTG_FS_VBUS (hiz), 43 PA10/USART1_RX/TIM1_CH3/OTG_FS_ID/DCMI_D1 (hiz), 44 PA11/USART1_CTS/CAN1_RX/TIM1_CH4/OTG_FS_DM (hiz), 45 PA12/USART1_RTS / CAN1_TX/  TIM1_ETR/ OTG_FS_DP (hiz), 46 PA13/JTMS-SWDIO (hiz), 49 PA14/JTCK-SWCLK (hiz), 50 PA15/JTDI/SPI3_NSS/I2S3_WS/TIM2_CH1_ETR/SPI1_NSS (hiz)
part B pins: 26 PB0/TIM3_CH3/TIM8_CH2N/OTG_HS_ULPI_D1/TIM1_CH2N/ADC12_IN8 (hiz), 27 PB1/TIM3_CH4/TIM8_CH3N/OTG_HS_ULPI_D2/OTG_HS_INTN/TIM1_CH3N/ADC12_IN9 (hiz), 28 PB2-BOOT1 (hiz), 29 PB10/SPI2_SCK/I2S2_CK/I2C2_SCL/USART3_TX/OTG_HS_ULPI_D3/OTG_HS_SCL/TIM2_CH3 (hiz), 30 PB11/I2C2_SDA/USART3_RX/OTG_HS_ULPI_D4/OTG_HS_SDA/TIM2_CH4 (hiz), 33 PB12/SPI2_NSS/I2S2_WS/I2C2_SMBA/USART3_CK/TIM1_BKIN/CAN2_RX/OTG_HS_ULPI_D5/OTG_HS_ID (hiz), 34 PB13/SPI2_SCK / I2S2_CK/USART3_CTS/TIM1_CH1N /CAN2_TX/OTG_HS_ULPI_D6/OTG_HS_VBUS (hiz), 35 PB14/SPI2_MISO/TIM1_CH2N/TIM12_CH1/OTG_HS_DM/USART3_RTS/TIM8_CH2N/I2S2EXT_SD (hiz), 36 PB15/SPI2_MOSI/I2S2_SD/TIM1_CH3N/TIM8_CH3N/TIM12_CH2/OTG_HS_DP (hiz), 55 PB3/JTDO/TRACESWO/SPI3_SCK/I2S3_CK/TIM2_CH2/SPI1_SCK (hiz), 56 PB4/NJTRST/SPI3_MISO/TIM3_CH1/SPI1_MISO/I2S3EXT_SD (hiz), 57 PB5/I2C1_SMBA/CAN2_RX/OTG_HS_ULPI_D7/TIM3_CH2/SPI1_MOSI/SPI3_MOSI/DCMI_D10/I2S3_SD (hiz), 58 PB6/I2C1_SCL/TIM4_CH1/CAN2_TX/OTG_FS_INTN/DCMI_D5/USART1_TX (hiz), 59 PB7/I2C1_SDA/FSMC_NL/DCMI_VSYNC/USART1_RX/ TIM4_CH2 (hiz), 61 PB8/TIM4_CH3/SDIO_D4/TIM10_CH1/DCMI_D6/OTG_FS_SCL/I2C1_SCL/CAN1_RX (hiz), 62 PB9/SPI2_NSS/I2S2_WS/TIM4_CH4/TIM11_CH1/OTG_FS_SDA/SDIO_D5/DCMI_D7/I2C1_SDA/CAN1_TX (hiz)
part C pins: 2 PC13/RTC_AF1, 3 PC14-OSC32_IN (hiz), 4 PC15-OSC32_OUT (hiz), 8 PC0/OTG_HS_ULPI_STP/ADC123_IN10 (hiz), 9 PC1/ADC123_IN11 (hiz), 10 PC2/SPI2_MISO/OTG_HS_ULPI_DIR/I2S2EXT_SD/ADC123_IN12 (hiz), 11 PC3/SPI2_MOSI/I2S2_SD/OTG_HS_ULPI_NXT/ADC123_IN13 (hiz), 24 PC4/ADC12_IN14 (hiz), 25 PC5/ADC12_IN15 (hiz), 37 PC6/I2S2_MCK/TIM8_CH1/SDIO_D6/USART6_TX/DCMI_D0/TIM3_CH1 (hiz), 38 PC7/I2S3_MCK/TIM8_CH2/SDIO_D7/USART6_RX/DCMI_D1/TIM3_CH2 (hiz), 39 PC8/TIM8_CH3/SDIO_D0/TIM3_CH3/USART6_CK/DCMI_D2 (hiz), 40 PC9/I2S2_CKIN/MCO2/TIM8_CH4/SDIO_D1/I2C3_SDA/DCMI_D3/TIM3_CH4 (hiz), 51 PC10/SPI3_SCK/I2S3_CK/UART4_TX/SDIO_D2/DCMI_D8/USART3_TX (hiz), 52 PC11/UART4_RX/ SPI3_MISO/SDIO_D3/DCMI_D4/USART3_RX/I2SEXT_SD (hiz), 53 PC12/UART5_TX/SDIO_CK/DCMI_D9/SPI3_MOSI/I2S3_SD/USART3_CK (hiz)
part D pins: 5 PH0-OSC_IN (hiz), 6 PH1-OSC_OUT (hiz), 54 PD2/TIM3_ETR/UART5_RX/SDIO_CMD/DCMI_D11 (hiz)
part E pins: 1 VBAT (power), 7 NRST (in), 12 VSSA (power), 13 VDDA (power), 18 VSS (power), 19 VDD (power), 31 VCAP_1 (power), 32 VDD (power), 47 VCAP_2 (power), 48 VDD (power), 60 BOOT0 (in), 63 VSS "Reserved for Future Use", 64 VDD (power)

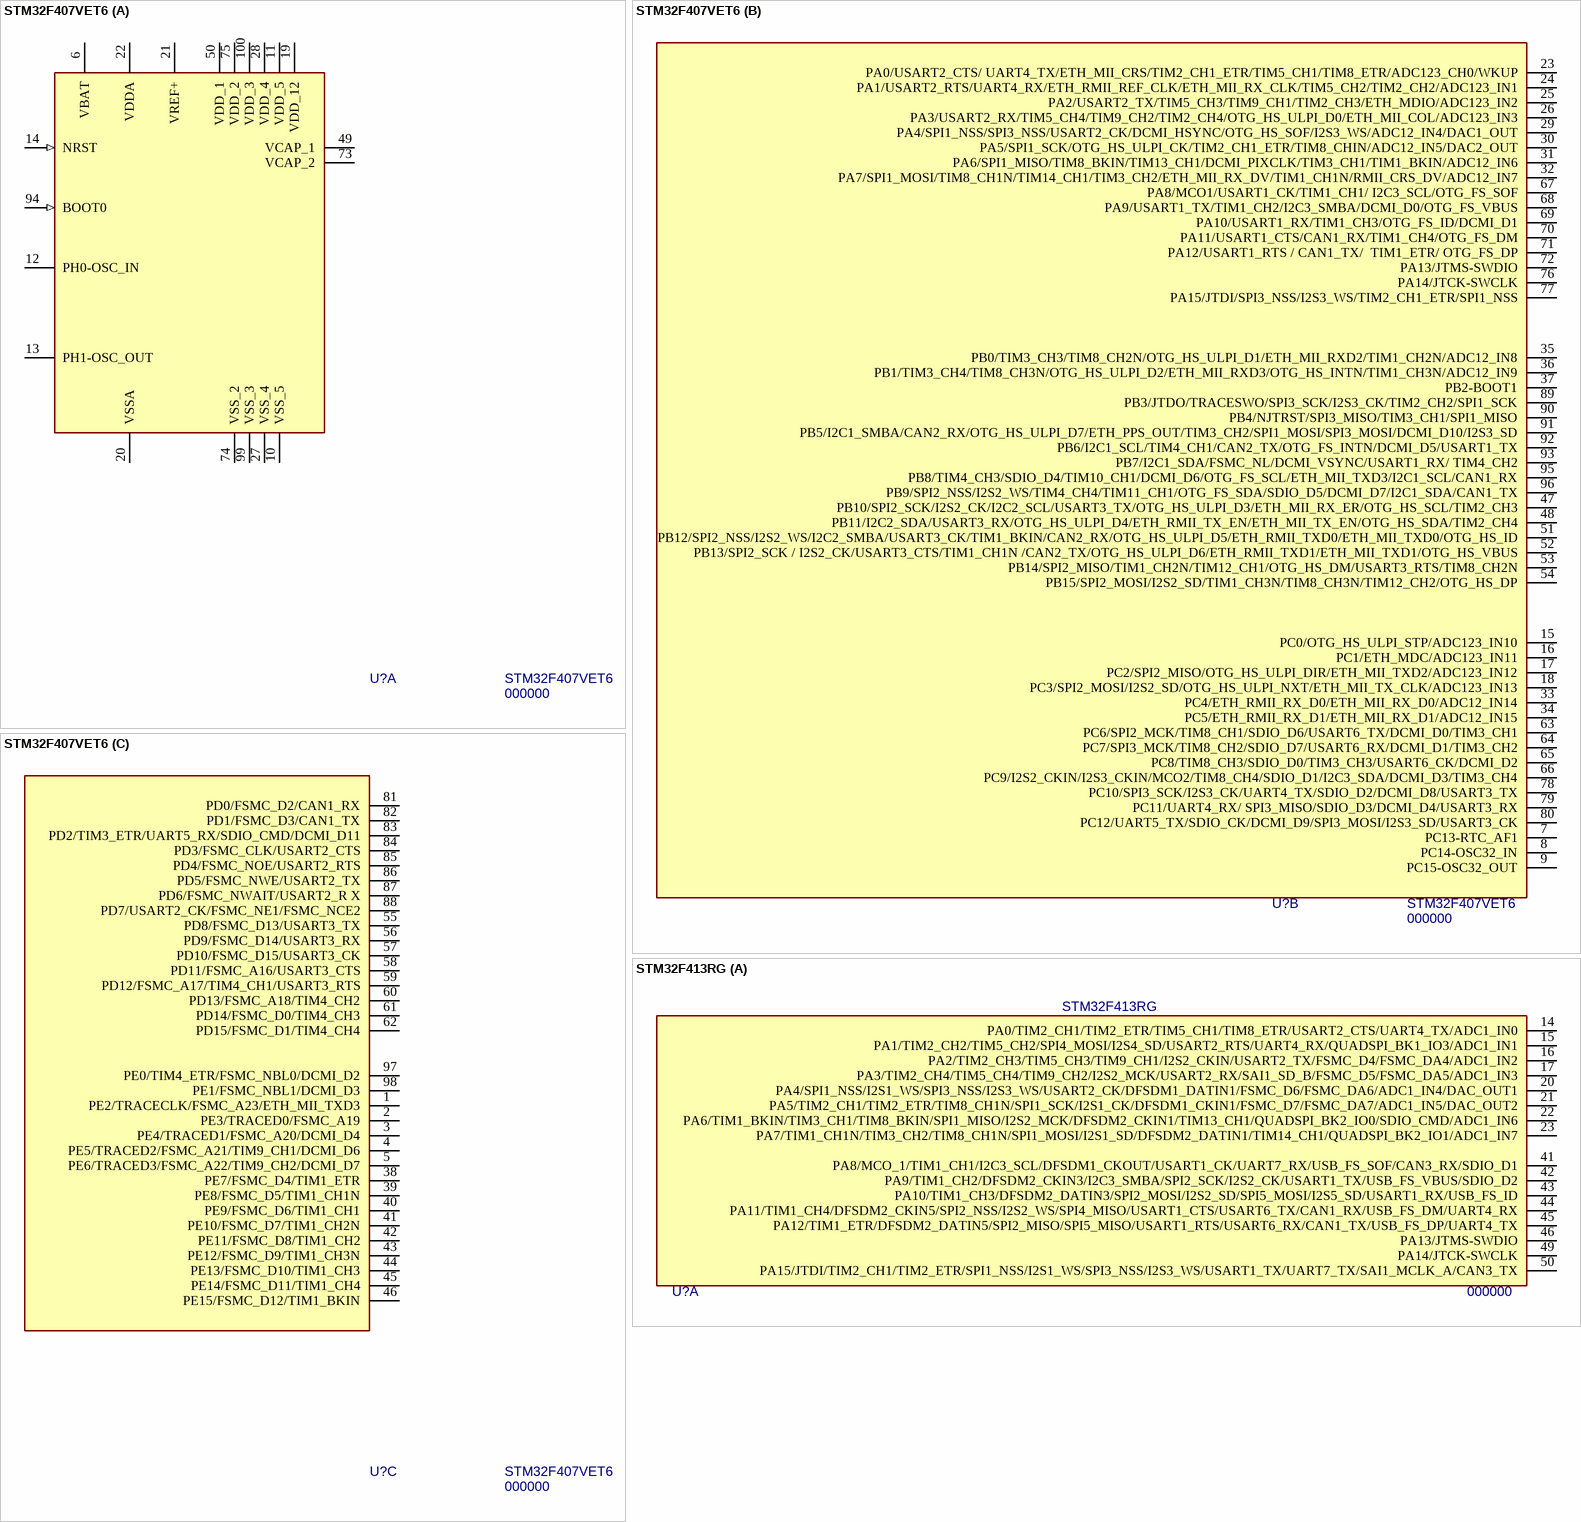
[diagram p5: symbols STM32F407VET6 to STM32F413RG]

## STM32F407VET6
designator U?, comment 000000  value STM32F407VET6
ARM Cortex-M4, 1MB Flash, 192+4KB RAM; MF: STMicroelectronics; Package: LQFP100; PN: 000000; ExtraInfo: *; MF PN: STM32F407VET6
footprint LQFP100 (TSQFP, 100-Leads, Body 16.2x16.2mm (max), Pitch 0.50mm, IPC High Density)
part A pins: 6 VBAT (power), 10 VSS_5 (power), 11 VDD_5 (power), 12 PH0-OSC_IN (hiz), 13 PH1-OSC_OUT (hiz), 14 NRST (in), 19 VDD_12 (power), 20 VSSA (power), 21 VREF+ (power), 22 VDDA (power), 27 VSS_4 (power), 28 VDD_4 (power), 49 VCAP_1 (power), 50 VDD_1 (power), 73 VCAP_2 (power), 74 VSS_2 (power), 75 VDD_2 (power), 94 BOOT0 (in), 99 VSS_3 "Reserved for Future Use", 100 VDD_3 (power)
part B pins: 7 PC13-RTC_AF1 (hiz), 8 PC14-OSC32_IN (hiz), 9 PC15-OSC32_OUT (hiz), 15 PC0/OTG_HS_ULPI_STP/ADC123_IN10 (hiz), 16 PC1/ETH_MDC/ADC123_IN11 (hiz), 17 PC2/SPI2_MISO/OTG_HS_ULPI_DIR/ETH_MII_TXD2/ADC123_IN12 (hiz), 18 PC3/SPI2_MOSI/I2S2_SD/OTG_HS_ULPI_NXT/ETH_MII_TX_CLK/ADC123_IN13 (hiz), 23 PA0/USART2_CTS/ UART4_TX/ETH_MII_CRS/TIM2_CH1_ETR/TIM5_CH1/TIM8_ETR/ADC123_CH0/WKUP (hiz), 24 PA1/USART2_RTS/UART4_RX/ETH_RMII_REF_CLK/ETH_MII_RX_CLK/TIM5_CH2/TIM2_CH2/ADC123_IN1 (hiz), 25 PA2/USART2_TX/TIM5_CH3/TIM9_CH1/TIM2_CH3/ETH_MDIO/ADC123_IN2 (hiz), 26 PA3/USART2_RX/TIM5_CH4/TIM9_CH2/TIM2_CH4/OTG_HS_ULPI_D0/ETH_MII_COL/ADC123_IN3 (hiz), 29 PA4/SPI1_NSS/SPI3_NSS/USART2_CK/DCMI_HSYNC/OTG_HS_SOF/I2S3_WS/ADC12_IN4/DAC1_OUT (hiz), 30 PA5/SPI1_SCK/OTG_HS_ULPI_CK/TIM2_CH1_ETR/TIM8_CHIN/ADC12_IN5/DAC2_OUT (hiz), 31 PA6/SPI1_MISO/TIM8_BKIN/TIM13_CH1/DCMI_PIXCLK/TIM3_CH1/TIM1_BKIN/ADC12_IN6 (hiz), 32 PA7/SPI1_MOSI/TIM8_CH1N/TIM14_CH1/TIM3_CH2/ETH_MII_RX_DV/TIM1_CH1N/RMII_CRS_DV/ADC12_IN7 (hiz), 33 PC4/ETH_RMII_RX_D0/ETH_MII_RX_D0/ADC12_IN14 (hiz), 34 PC5/ETH_RMII_RX_D1/ETH_MII_RX_D1/ADC12_IN15 (hiz), 35 PB0/TIM3_CH3/TIM8_CH2N/OTG_HS_ULPI_D1/ETH_MII_RXD2/TIM1_CH2N/ADC12_IN8 (hiz), 36 PB1/TIM3_CH4/TIM8_CH3N/OTG_HS_ULPI_D2/ETH_MII_RXD3/OTG_HS_INTN/TIM1_CH3N/ADC12_IN9 (hiz), 37 PB2-BOOT1 (hiz), 47 PB10/SPI2_SCK/I2S2_CK/I2C2_SCL/USART3_TX/OTG_HS_ULPI_D3/ETH_MII_RX_ER/OTG_HS_SCL/TIM2_CH3 (hiz), 48 PB11/I2C2_SDA/USART3_RX/OTG_HS_ULPI_D4/ETH_RMII_TX_EN/ETH_MII_TX_EN/OTG_HS_SDA/TIM2_CH4 (hiz), 51 PB12/SPI2_NSS/I2S2_WS/I2C2_SMBA/USART3_CK/TIM1_BKIN/CAN2_RX/OTG_HS_ULPI_D5/ETH_RMII_TXD0/ETH_MII_TXD0/OTG_HS_ID (hiz), 52 PB13/SPI2_SCK / I2S2_CK/USART3_CTS/TIM1_CH1N /CAN2_TX/OTG_HS_ULPI_D6/ETH_RMII_TXD1/ETH_MII_TXD1/OTG_HS_VBUS (hiz), 53 PB14/SPI2_MISO/TIM1_CH2N/TIM12_CH1/OTG_HS_DM/USART3_RTS/TIM8_CH2N (hiz), 54 PB15/SPI2_MOSI/I2S2_SD/TIM1_CH3N/TIM8_CH3N/TIM12_CH2/OTG_HS_DP (hiz), 63 PC6/SPI2_MCK/TIM8_CH1/SDIO_D6/USART6_TX/DCMI_D0/TIM3_CH1 (hiz), 64 PC7/SPI3_MCK/TIM8_CH2/SDIO_D7/USART6_RX/DCMI_D1/TIM3_CH2 (hiz), 65 PC8/TIM8_CH3/SDIO_D0/TIM3_CH3/USART6_CK/DCMI_D2 (hiz), 66 PC9/I2S2_CKIN/I2S3_CKIN/MCO2/TIM8_CH4/SDIO_D1/I2C3_SDA/DCMI_D3/TIM3_CH4 (hiz), 67 PA8/MCO1/USART1_CK/TIM1_CH1/ I2C3_SCL/OTG_FS_SOF (hiz), 68 PA9/USART1_TX/TIM1_CH2/I2C3_SMBA/DCMI_D0/OTG_FS_VBUS (hiz), 69 PA10/USART1_RX/TIM1_CH3/OTG_FS_ID/DCMI_D1 (hiz), 70 PA11/USART1_CTS/CAN1_RX/TIM1_CH4/OTG_FS_DM (hiz), 71 PA12/USART1_RTS / CAN1_TX/  TIM1_ETR/ OTG_FS_DP (hiz), 72 PA13/JTMS-SWDIO (hiz), 76 PA14/JTCK-SWCLK (hiz), 77 PA15/JTDI/SPI3_NSS/I2S3_WS/TIM2_CH1_ETR/SPI1_NSS (hiz), 78 PC10/SPI3_SCK/I2S3_CK/UART4_TX/SDIO_D2/DCMI_D8/USART3_TX (hiz), 79 PC11/UART4_RX/ SPI3_MISO/SDIO_D3/DCMI_D4/USART3_RX (hiz), 80 PC12/UART5_TX/SDIO_CK/DCMI_D9/SPI3_MOSI/I2S3_SD/USART3_CK (hiz), 89 PB3/JTDO/TRACESWO/SPI3_SCK/I2S3_CK/TIM2_CH2/SPI1_SCK (hiz), 90 PB4/NJTRST/SPI3_MISO/TIM3_CH1/SPI1_MISO (hiz), 91 PB5/I2C1_SMBA/CAN2_RX/OTG_HS_ULPI_D7/ETH_PPS_OUT/TIM3_CH2/SPI1_MOSI/SPI3_MOSI/DCMI_D10/I2S3_SD (hiz), 92 PB6/I2C1_SCL/TIM4_CH1/CAN2_TX/OTG_FS_INTN/DCMI_D5/USART1_TX (hiz), 93 PB7/I2C1_SDA/FSMC_NL/DCMI_VSYNC/USART1_RX/ TIM4_CH2 (hiz), 95 PB8/TIM4_CH3/SDIO_D4/TIM10_CH1/DCMI_D6/OTG_FS_SCL/ETH_MII_TXD3/I2C1_SCL/CAN1_RX (hiz), 96 PB9/SPI2_NSS/I2S2_WS/TIM4_CH4/TIM11_CH1/OTG_FS_SDA/SDIO_D5/DCMI_D7/I2C1_SDA/CAN1_TX (hiz)
part C pins: 1 PE2/TRACECLK/FSMC_A23/ETH_MII_TXD3 (hiz), 2 PE3/TRACED0/FSMC_A19 (hiz), 3 PE4/TRACED1/FSMC_A20/DCMI_D4 (hiz), 4 PE5/TRACED2/FSMC_A21/TIM9_CH1/DCMI_D6 (hiz), 5 PE6/TRACED3/FSMC_A22/TIM9_CH2/DCMI_D7 (hiz), 38 PE7/FSMC_D4/TIM1_ETR (hiz), 39 PE8/FSMC_D5/TIM1_CH1N (hiz), 40 PE9/FSMC_D6/TIM1_CH1 (hiz), 41 PE10/FSMC_D7/TIM1_CH2N (hiz), 42 PE11/FSMC_D8/TIM1_CH2 (hiz), 43 PE12/FSMC_D9/TIM1_CH3N (hiz), 44 PE13/FSMC_D10/TIM1_CH3 (hiz), 45 PE14/FSMC_D11/TIM1_CH4 (hiz), 46 PE15/FSMC_D12/TIM1_BKIN (hiz), 55 PD8/FSMC_D13/USART3_TX (hiz), 56 PD9/FSMC_D14/USART3_RX (hiz), 57 PD10/FSMC_D15/USART3_CK (hiz), 58 PD11/FSMC_A16/USART3_CTS (hiz), 59 PD12/FSMC_A17/TIM4_CH1/USART3_RTS (hiz), 60 PD13/FSMC_A18/TIM4_CH2 (hiz), 61 PD14/FSMC_D0/TIM4_CH3 (hiz), 62 PD15/FSMC_D1/TIM4_CH4 (hiz), 81 PD0/FSMC_D2/CAN1_RX (hiz), 82 PD1/FSMC_D3/CAN1_TX (hiz), 83 PD2/TIM3_ETR/UART5_RX/SDIO_CMD/DCMI_D11 (hiz), 84 PD3/FSMC_CLK/USART2_CTS (hiz), 85 PD4/FSMC_NOE/USART2_RTS (hiz), 86 PD5/FSMC_NWE/USART2_TX (hiz), 87 PD6/FSMC_NWAIT/USART2_R X (hiz), 88 PD7/USART2_CK/FSMC_NE1/FSMC_NCE2 (hiz), 97 PE0/TIM4_ETR/FSMC_NBL0/DCMI_D2 (hiz), 98 PE1/FSMC_NBL1/DCMI_D3 (hiz)

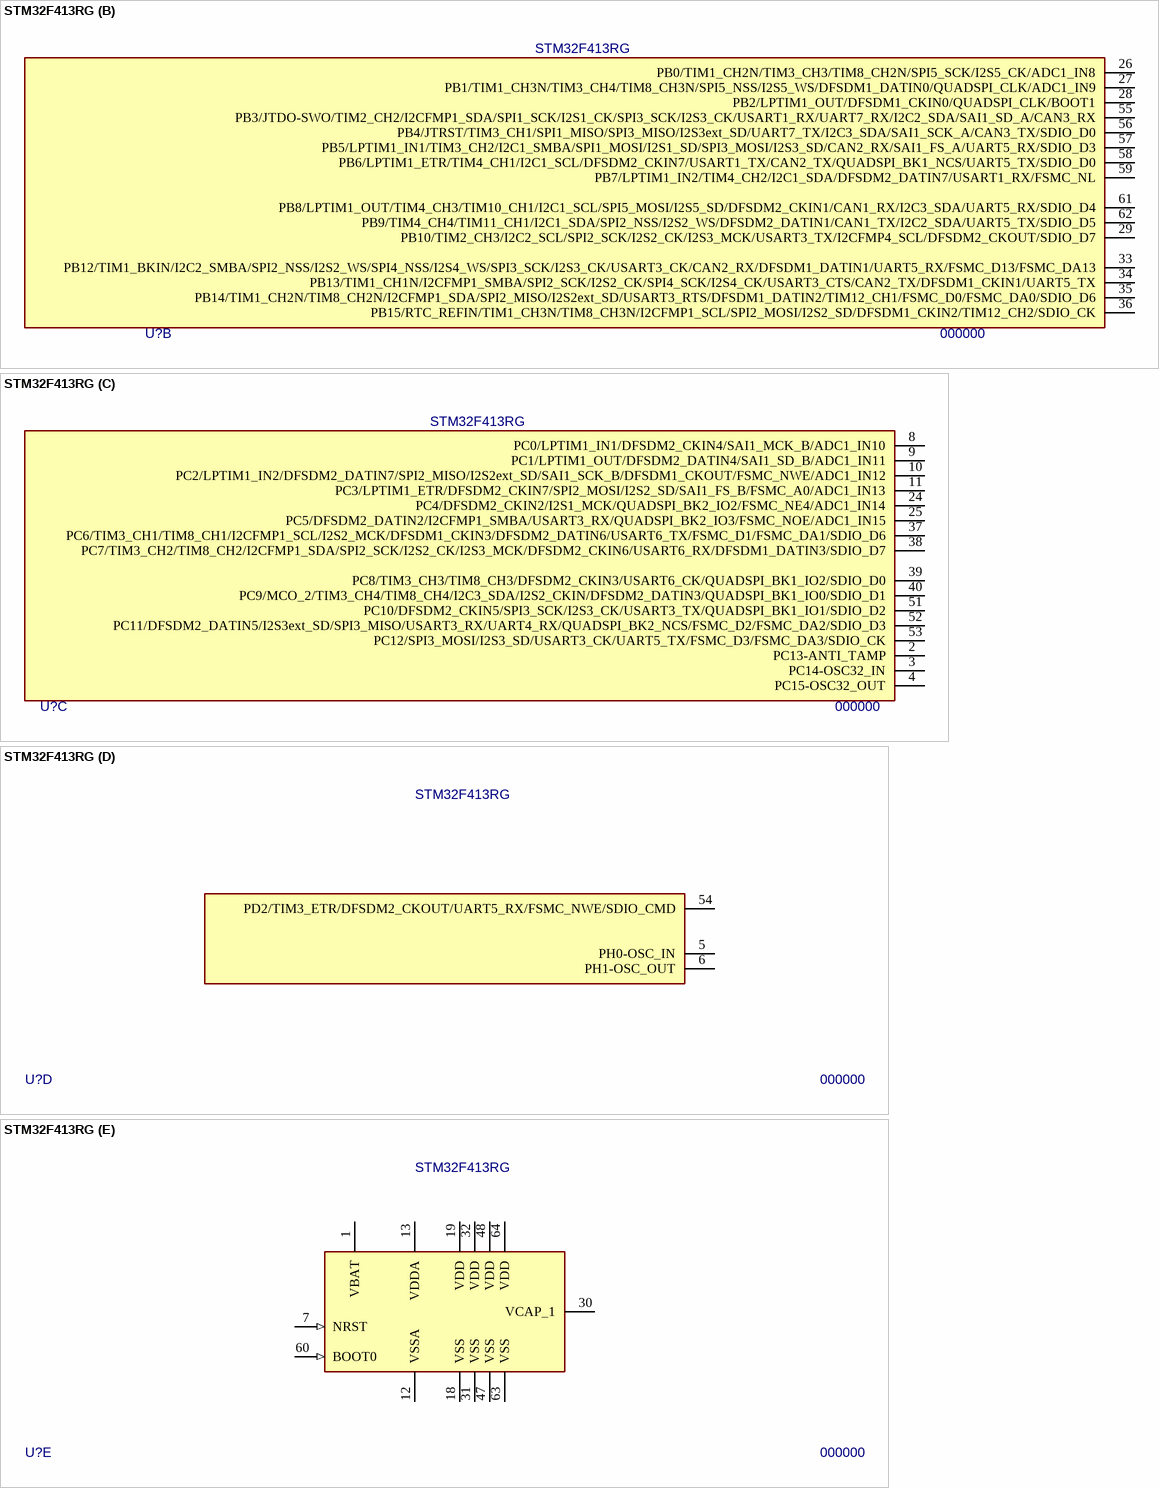
[diagram p6: symbol STM32F413RG]

## STM32F413RG
designator U?, comment 000000  value STM32F413RG
ARM Cortex-M4, 1MB Flash, 320KB RAM; MF: STMicroelectronics; Package: LQFP64; PN: 000000; ExtraInfo: *; MF PN: STM32F413RG
footprint LQFP64 (TSQFP, 64-Leads, Body 12.0x12.0mm (max), Pitch 0.50mm, IPC Medium Density)
part A pins: 14 PA0/TIM2_CH1/TIM2_ETR/TIM5_CH1/TIM8_ETR/USART2_CTS/UART4_TX/ADC1_IN0 (hiz), 15 PA1/TIM2_CH2/TIM5_CH2/SPI4_MOSI/I2S4_SD/USART2_RTS/UART4_RX/QUADSPI_BK1_IO3/ADC1_IN1 (hiz), 16 PA2/TIM2_CH3/TIM5_CH3/TIM9_CH1/I2S2_CKIN/USART2_TX/FSMC_D4/FSMC_DA4/ADC1_IN2 (hiz), 17 PA3/TIM2_CH4/TIM5_CH4/TIM9_CH2/I2S2_MCK/USART2_RX/SAI1_SD_B/FSMC_D5/FSMC_DA5/ADC1_IN3 (hiz), 20 PA4/SPI1_NSS/I2S1_WS/SPI3_NSS/I2S3_WS/USART2_CK/DFSDM1_DATIN1/FSMC_D6/FSMC_DA6/ADC1_IN4/DAC_OUT1 (hiz), 21 PA5/TIM2_CH1/TIM2_ETR/TIM8_CH1N/SPI1_SCK/I2S1_CK/DFSDM1_CKIN1/FSMC_D7/FSMC_DA7/ADC1_IN5/DAC_OUT2 (hiz), 22 PA6/TIM1_BKIN/TIM3_CH1/TIM8_BKIN/SPI1_MISO/I2S2_MCK/DFSDM2_CKIN1/TIM13_CH1/QUADSPI_BK2_IO0/SDIO_CMD/ADC1_IN6 (hiz), 23 PA7/TIM1_CH1N/TIM3_CH2/TIM8_CH1N/SPI1_MOSI/I2S1_SD/DFSDM2_DATIN1/TIM14_CH1/QUADSPI_BK2_IO1/ADC1_IN7 (hiz), 41 PA8/MCO_1/TIM1_CH1/I2C3_SCL/DFSDM1_CKOUT/USART1_CK/UART7_RX/USB_FS_SOF/CAN3_RX/SDIO_D1 (hiz), 42 PA9/TIM1_CH2/DFSDM2_CKIN3/I2C3_SMBA/SPI2_SCK/I2S2_CK/USART1_TX/USB_FS_VBUS/SDIO_D2 (hiz), 43 PA10/TIM1_CH3/DFSDM2_DATIN3/SPI2_MOSI/I2S2_SD/SPI5_MOSI/I2S5_SD/USART1_RX/USB_FS_ID (hiz), 44 PA11/TIM1_CH4/DFSDM2_CKIN5/SPI2_NSS/I2S2_WS/SPI4_MISO/USART1_CTS/USART6_TX/CAN1_RX/USB_FS_DM/UART4_RX (hiz), 45 PA12/TIM1_ETR/DFSDM2_DATIN5/SPI2_MISO/SPI5_MISO/USART1_RTS/USART6_RX/CAN1_TX/USB_FS_DP/UART4_TX (hiz), 46 PA13/JTMS-SWDIO (hiz), 49 PA14/JTCK-SWCLK (hiz), 50 PA15/JTDI/TIM2_CH1/TIM2_ETR/SPI1_NSS/I2S1_WS/SPI3_NSS/I2S3_WS/USART1_TX/UART7_TX/SAI1_MCLK_A/CAN3_TX (hiz)
part B pins: 26 PB0/TIM1_CH2N/TIM3_CH3/TIM8_CH2N/SPI5_SCK/I2S5_CK/ADC1_IN8 (hiz), 27 PB1/TIM1_CH3N/TIM3_CH4/TIM8_CH3N/SPI5_NSS/I2S5_WS/DFSDM1_DATIN0/QUADSPI_CLK/ADC1_IN9 (hiz), 28 PB2/LPTIM1_OUT/DFSDM1_CKIN0/QUADSPI_CLK/BOOT1 (hiz), 29 PB10/TIM2_CH3/I2C2_SCL/SPI2_SCK/I2S2_CK/I2S3_MCK/USART3_TX/I2CFMP4_SCL/DFSDM2_CKOUT/SDIO_D7 (hiz), 33 PB12/TIM1_BKIN/I2C2_SMBA/SPI2_NSS/I2S2_WS/SPI4_NSS/I2S4_WS/SPI3_SCK/I2S3_CK/USART3_CK/CAN2_RX/DFSDM1_DATIN1/UART5_RX/FSMC_D13/FSMC_DA13 (hiz), 34 PB13/TIM1_CH1N/I2CFMP1_SMBA/SPI2_SCK/I2S2_CK/SPI4_SCK/I2S4_CK/USART3_CTS/CAN2_TX/DFSDM1_CKIN1/UART5_TX (hiz), 35 PB14/TIM1_CH2N/TIM8_CH2N/I2CFMP1_SDA/SPI2_MISO/I2S2ext_SD/USART3_RTS/DFSDM1_DATIN2/TIM12_CH1/FSMC_D0/FSMC_DA0/SDIO_D6 (hiz), 36 PB15/RTC_REFIN/TIM1_CH3N/TIM8_CH3N/I2CFMP1_SCL/SPI2_MOSI/I2S2_SD/DFSDM1_CKIN2/TIM12_CH2/SDIO_CK (hiz), 55 PB3/JTDO-SWO/TIM2_CH2/I2CFMP1_SDA/SPI1_SCK/I2S1_CK/SPI3_SCK/I2S3_CK/USART1_RX/UART7_RX/I2C2_SDA/SAI1_SD_A/CAN3_RX (hiz), 56 PB4/JTRST/TIM3_CH1/SPI1_MISO/SPI3_MISO/I2S3ext_SD/UART7_TX/I2C3_SDA/SAI1_SCK_A/CAN3_TX/SDIO_D0 (hiz), 57 PB5/LPTIM1_IN1/TIM3_CH2/I2C1_SMBA/SPI1_MOSI/I2S1_SD/SPI3_MOSI/I2S3_SD/CAN2_RX/SAI1_FS_A/UART5_RX/SDIO_D3 (hiz), 58 PB6/LPTIM1_ETR/TIM4_CH1/I2C1_SCL/DFSDM2_CKIN7/USART1_TX/CAN2_TX/QUADSPI_BK1_NCS/UART5_TX/SDIO_D0 (hiz), 59 PB7/LPTIM1_IN2/TIM4_CH2/I2C1_SDA/DFSDM2_DATIN7/USART1_RX/FSMC_NL (hiz), 61 PB8/LPTIM1_OUT/TIM4_CH3/TIM10_CH1/I2C1_SCL/SPI5_MOSI/I2S5_SD/DFSDM2_CKIN1/CAN1_RX/I2C3_SDA/UART5_RX/SDIO_D4 (hiz), 62 PB9/TIM4_CH4/TIM11_CH1/I2C1_SDA/SPI2_NSS/I2S2_WS/DFSDM2_DATIN1/CAN1_TX/I2C2_SDA/UART5_TX/SDIO_D5 (hiz)
part C pins: 2 PC13-ANTI_TAMP, 3 PC14-OSC32_IN (hiz), 4 PC15-OSC32_OUT (hiz), 8 PC0/LPTIM1_IN1/DFSDM2_CKIN4/SAI1_MCK_B/ADC1_IN10 (hiz), 9 PC1/LPTIM1_OUT/DFSDM2_DATIN4/SAI1_SD_B/ADC1_IN11 (hiz), 10 PC2/LPTIM1_IN2/DFSDM2_DATIN7/SPI2_MISO/I2S2ext_SD/SAI1_SCK_B/DFSDM1_CKOUT/FSMC_NWE/ADC1_IN12 (hiz), 11 PC3/LPTIM1_ETR/DFSDM2_CKIN7/SPI2_MOSI/I2S2_SD/SAI1_FS_B/FSMC_A0/ADC1_IN13 (hiz), 24 PC4/DFSDM2_CKIN2/I2S1_MCK/QUADSPI_BK2_IO2/FSMC_NE4/ADC1_IN14 (hiz), 25 PC5/DFSDM2_DATIN2/I2CFMP1_SMBA/USART3_RX/QUADSPI_BK2_IO3/FSMC_NOE/ADC1_IN15 (hiz), 37 PC6/TIM3_CH1/TIM8_CH1/I2CFMP1_SCL/I2S2_MCK/DFSDM1_CKIN3/DFSDM2_DATIN6/USART6_TX/FSMC_D1/FSMC_DA1/SDIO_D6 (hiz), 38 PC7/TIM3_CH2/TIM8_CH2/I2CFMP1_SDA/SPI2_SCK/I2S2_CK/I2S3_MCK/DFSDM2_CKIN6/USART6_RX/DFSDM1_DATIN3/SDIO_D7 (hiz), 39 PC8/TIM3_CH3/TIM8_CH3/DFSDM2_CKIN3/USART6_CK/QUADSPI_BK1_IO2/SDIO_D0 (hiz), 40 PC9/MCO_2/TIM3_CH4/TIM8_CH4/I2C3_SDA/I2S2_CKIN/DFSDM2_DATIN3/QUADSPI_BK1_IO0/SDIO_D1 (hiz), 51 PC10/DFSDM2_CKIN5/SPI3_SCK/I2S3_CK/USART3_TX/QUADSPI_BK1_IO1/SDIO_D2 (hiz), 52 PC11/DFSDM2_DATIN5/I2S3ext_SD/SPI3_MISO/USART3_RX/UART4_RX/QUADSPI_BK2_NCS/FSMC_D2/FSMC_DA2/SDIO_D3 (hiz), 53 PC12/SPI3_MOSI/I2S3_SD/USART3_CK/UART5_TX/FSMC_D3/FSMC_DA3/SDIO_CK (hiz)
part D pins: 5 PH0-OSC_IN (hiz), 6 PH1-OSC_OUT (hiz), 54 PD2/TIM3_ETR/DFSDM2_CKOUT/UART5_RX/FSMC_NWE/SDIO_CMD (hiz)
part E pins: 1 VBAT (power), 7 NRST (in), 12 VSSA (power), 13 VDDA (power), 18 VSS (power), 19 VDD (power), 30 VCAP_1 (power), 31 VSS (power), 32 VDD (power), 47 VSS (power), 48 VDD (power), 60 BOOT0 (in), 63 VSS "Reserved for Future Use", 64 VDD (power)

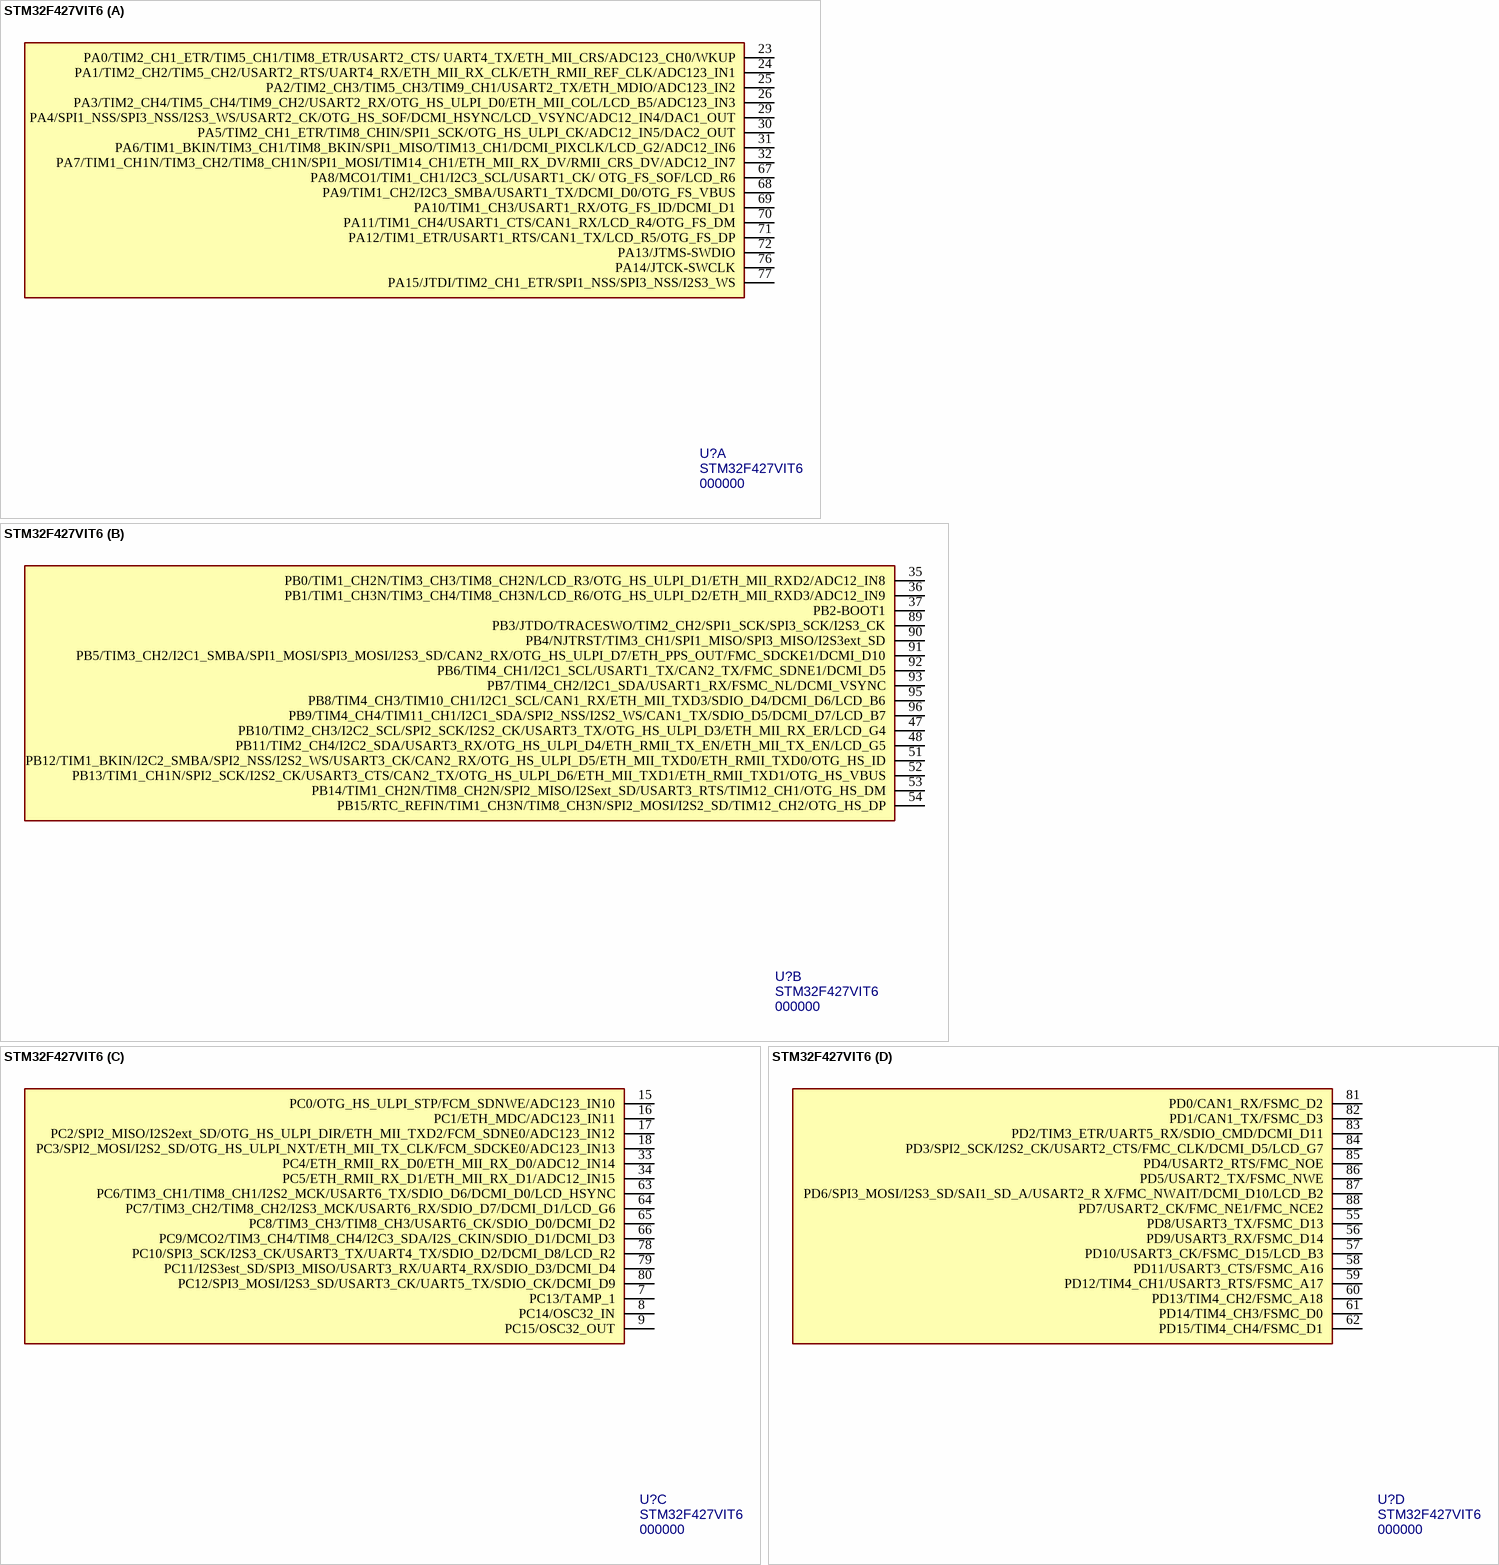
[diagram p7: symbol STM32F427VIT6]

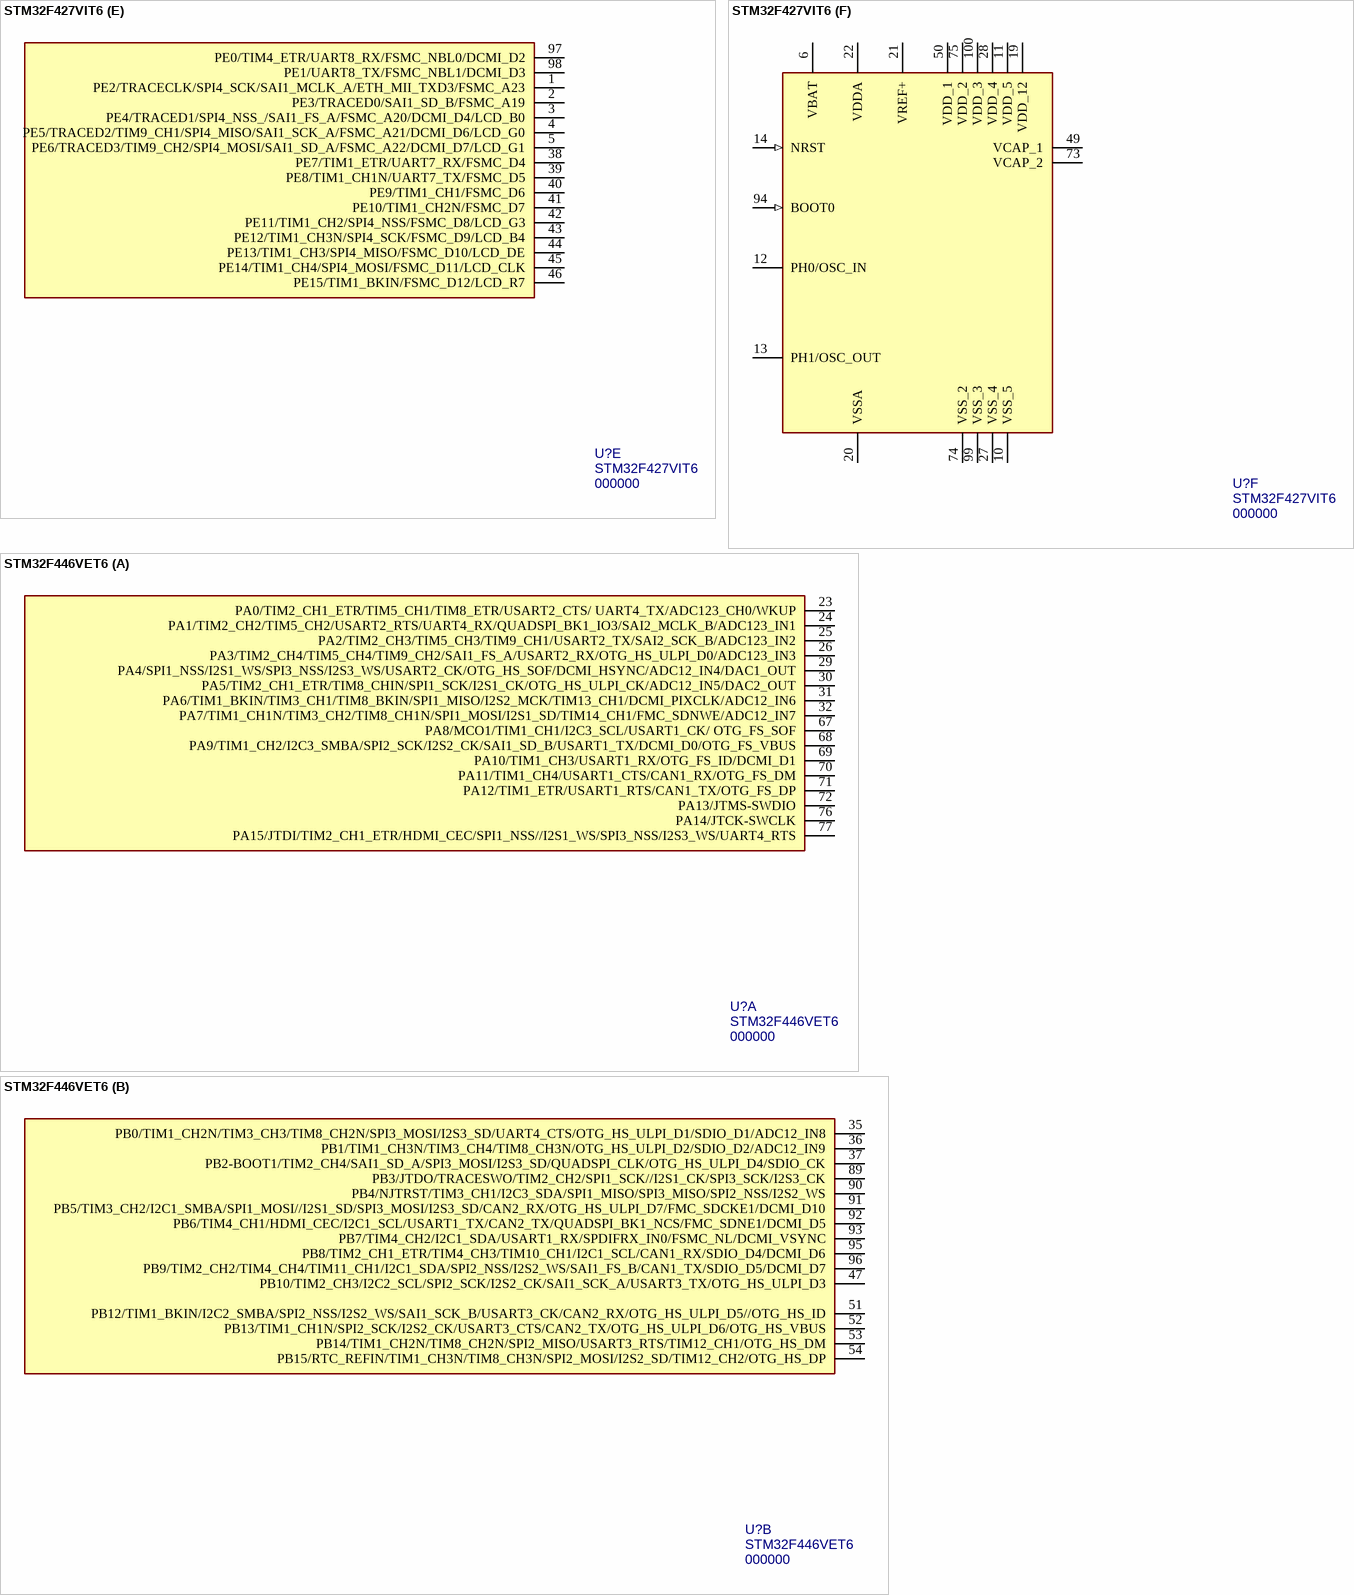
[diagram p8: symbols STM32F427VIT6 to STM32F446VET6]

## STM32F427VIT6
designator U?, comment 000000  value STM32F427VIT6
ARM Cortex-M4,  2MB Flash, 256+4KB RAM; MF: STMicroelectronics; Package: LQFP100; PN: 000000; ExtraInfo: *; MF PN: STM32F427VIT6
footprint LQFP100 (TSQFP, 100-Leads, Body 16.2x16.2mm (max), Pitch 0.50mm, IPC High Density)
part A pins: 23 PA0/TIM2_CH1_ETR/TIM5_CH1/TIM8_ETR/USART2_CTS/ UART4_TX/ETH_MII_CRS/ADC123_CH0/WKUP (hiz), 24 PA1/TIM2_CH2/TIM5_CH2/USART2_RTS/UART4_RX/ETH_MII_RX_CLK/ETH_RMII_REF_CLK/ADC123_IN1 (hiz), 25 PA2/TIM2_CH3/TIM5_CH3/TIM9_CH1/USART2_TX/ETH_MDIO/ADC123_IN2 (hiz), 26 PA3/TIM2_CH4/TIM5_CH4/TIM9_CH2/USART2_RX/OTG_HS_ULPI_D0/ETH_MII_COL/LCD_B5/ADC123_IN3 (hiz), 29 PA4/SPI1_NSS/SPI3_NSS/I2S3_WS/USART2_CK/OTG_HS_SOF/DCMI_HSYNC/LCD_VSYNC/ADC12_IN4/DAC1_OUT (hiz), 30 PA5/TIM2_CH1_ETR/TIM8_CHIN/SPI1_SCK/OTG_HS_ULPI_CK/ADC12_IN5/DAC2_OUT (hiz), 31 PA6/TIM1_BKIN/TIM3_CH1/TIM8_BKIN/SPI1_MISO/TIM13_CH1/DCMI_PIXCLK/LCD_G2/ADC12_IN6 (hiz), 32 PA7/TIM1_CH1N/TIM3_CH2/TIM8_CH1N/SPI1_MOSI/TIM14_CH1/ETH_MII_RX_DV/RMII_CRS_DV/ADC12_IN7 (hiz), 67 PA8/MCO1/TIM1_CH1/I2C3_SCL/USART1_CK/ OTG_FS_SOF/LCD_R6 (hiz), 68 PA9/TIM1_CH2/I2C3_SMBA/USART1_TX/DCMI_D0/OTG_FS_VBUS (hiz), 69 PA10/TIM1_CH3/USART1_RX/OTG_FS_ID/DCMI_D1 (hiz), 70 PA11/TIM1_CH4/USART1_CTS/CAN1_RX/LCD_R4/OTG_FS_DM (hiz), 71 PA12/TIM1_ETR/USART1_RTS/CAN1_TX/LCD_R5/OTG_FS_DP (hiz), 72 PA13/JTMS-SWDIO (hiz), 76 PA14/JTCK-SWCLK (hiz), 77 PA15/JTDI/TIM2_CH1_ETR/SPI1_NSS/SPI3_NSS/I2S3_WS (hiz)
part B pins: 35 PB0/TIM1_CH2N/TIM3_CH3/TIM8_CH2N/LCD_R3/OTG_HS_ULPI_D1/ETH_MII_RXD2/ADC12_IN8 (hiz), 36 PB1/TIM1_CH3N/TIM3_CH4/TIM8_CH3N/LCD_R6/OTG_HS_ULPI_D2/ETH_MII_RXD3/ADC12_IN9 (hiz), 37 PB2-BOOT1 (hiz), 47 PB10/TIM2_CH3/I2C2_SCL/SPI2_SCK/I2S2_CK/USART3_TX/OTG_HS_ULPI_D3/ETH_MII_RX_ER/LCD_G4 (hiz), 48 PB11/TIM2_CH4/I2C2_SDA/USART3_RX/OTG_HS_ULPI_D4/ETH_RMII_TX_EN/ETH_MII_TX_EN/LCD_G5 (hiz), 51 PB12/TIM1_BKIN/I2C2_SMBA/SPI2_NSS/I2S2_WS/USART3_CK/CAN2_RX/OTG_HS_ULPI_D5/ETH_MII_TXD0/ETH_RMII_TXD0/OTG_HS_ID (hiz), 52 PB13/TIM1_CH1N/SPI2_SCK/I2S2_CK/USART3_CTS/CAN2_TX/OTG_HS_ULPI_D6/ETH_MII_TXD1/ETH_RMII_TXD1/OTG_HS_VBUS (hiz), 53 PB14/TIM1_CH2N/TIM8_CH2N/SPI2_MISO/I2Sext_SD/USART3_RTS/TIM12_CH1/OTG_HS_DM (hiz), 54 PB15/RTC_REFIN/TIM1_CH3N/TIM8_CH3N/SPI2_MOSI/I2S2_SD/TIM12_CH2/OTG_HS_DP (hiz), 89 PB3/JTDO/TRACESWO/TIM2_CH2/SPI1_SCK/SPI3_SCK/I2S3_CK (hiz), 90 PB4/NJTRST/TIM3_CH1/SPI1_MISO/SPI3_MISO/I2S3ext_SD (hiz), 91 PB5/TIM3_CH2/I2C1_SMBA/SPI1_MOSI/SPI3_MOSI/I2S3_SD/CAN2_RX/OTG_HS_ULPI_D7/ETH_PPS_OUT/FMC_SDCKE1/DCMI_D10 (hiz), 92 PB6/TIM4_CH1/I2C1_SCL/USART1_TX/CAN2_TX/FMC_SDNE1/DCMI_D5 (hiz), 93 PB7/TIM4_CH2/I2C1_SDA/USART1_RX/FSMC_NL/DCMI_VSYNC (hiz), 95 PB8/TIM4_CH3/TIM10_CH1/I2C1_SCL/CAN1_RX/ETH_MII_TXD3/SDIO_D4/DCMI_D6/LCD_B6 (hiz), 96 PB9/TIM4_CH4/TIM11_CH1/I2C1_SDA/SPI2_NSS/I2S2_WS/CAN1_TX/SDIO_D5/DCMI_D7/LCD_B7 (hiz)
part C pins: 7 PC13/TAMP_1 (hiz), 8 PC14/OSC32_IN (hiz), 9 PC15/OSC32_OUT (hiz), 15 PC0/OTG_HS_ULPI_STP/FCM_SDNWE/ADC123_IN10 (hiz), 16 PC1/ETH_MDC/ADC123_IN11 (hiz), 17 PC2/SPI2_MISO/I2S2ext_SD/OTG_HS_ULPI_DIR/ETH_MII_TXD2/FCM_SDNE0/ADC123_IN12 (hiz), 18 PC3/SPI2_MOSI/I2S2_SD/OTG_HS_ULPI_NXT/ETH_MII_TX_CLK/FCM_SDCKE0/ADC123_IN13 (hiz), 33 PC4/ETH_RMII_RX_D0/ETH_MII_RX_D0/ADC12_IN14 (hiz), 34 PC5/ETH_RMII_RX_D1/ETH_MII_RX_D1/ADC12_IN15 (hiz), 63 PC6/TIM3_CH1/TIM8_CH1/I2S2_MCK/USART6_TX/SDIO_D6/DCMI_D0/LCD_HSYNC (hiz), 64 PC7/TIM3_CH2/TIM8_CH2/I2S3_MCK/USART6_RX/SDIO_D7/DCMI_D1/LCD_G6 (hiz), 65 PC8/TIM3_CH3/TIM8_CH3/USART6_CK/SDIO_D0/DCMI_D2 (hiz), 66 PC9/MCO2/TIM3_CH4/TIM8_CH4/I2C3_SDA/I2S_CKIN/SDIO_D1/DCMI_D3 (hiz), 78 PC10/SPI3_SCK/I2S3_CK/USART3_TX/UART4_TX/SDIO_D2/DCMI_D8/LCD_R2 (hiz), 79 PC11/I2S3est_SD/SPI3_MISO/USART3_RX/UART4_RX/SDIO_D3/DCMI_D4 (hiz), 80 PC12/SPI3_MOSI/I2S3_SD/USART3_CK/UART5_TX/SDIO_CK/DCMI_D9 (hiz)
part D pins: 55 PD8/USART3_TX/FSMC_D13 (hiz), 56 PD9/USART3_RX/FSMC_D14 (hiz), 57 PD10/USART3_CK/FSMC_D15/LCD_B3 (hiz), 58 PD11/USART3_CTS/FSMC_A16 (hiz), 59 PD12/TIM4_CH1/USART3_RTS/FSMC_A17 (hiz), 60 PD13/TIM4_CH2/FSMC_A18 (hiz), 61 PD14/TIM4_CH3/FSMC_D0 (hiz), 62 PD15/TIM4_CH4/FSMC_D1 (hiz), 81 PD0/CAN1_RX/FSMC_D2 (hiz), 82 PD1/CAN1_TX/FSMC_D3 (hiz), 83 PD2/TIM3_ETR/UART5_RX/SDIO_CMD/DCMI_D11 (hiz), 84 PD3/SPI2_SCK/I2S2_CK/USART2_CTS/FMC_CLK/DCMI_D5/LCD_G7 (hiz), 85 PD4/USART2_RTS/FMC_NOE (hiz), 86 PD5/USART2_TX/FSMC_NWE (hiz), 87 PD6/SPI3_MOSI/I2S3_SD/SAI1_SD_A/USART2_R X/FMC_NWAIT/DCMI_D10/LCD_B2 (hiz), 88 PD7/USART2_CK/FMC_NE1/FMC_NCE2 (hiz)
part E pins: 1 PE2/TRACECLK/SPI4_SCK/SAI1_MCLK_A/ETH_MII_TXD3/FSMC_A23 (hiz), 2 PE3/TRACED0/SAI1_SD_B/FSMC_A19 (hiz), 3 PE4/TRACED1/SPI4_NSS_/SAI1_FS_A/FSMC_A20/DCMI_D4/LCD_B0 (hiz), 4 PE5/TRACED2/TIM9_CH1/SPI4_MISO/SAI1_SCK_A/FSMC_A21/DCMI_D6/LCD_G0 (hiz), 5 PE6/TRACED3/TIM9_CH2/SPI4_MOSI/SAI1_SD_A/FSMC_A22/DCMI_D7/LCD_G1 (hiz), 38 PE7/TIM1_ETR/UART7_RX/FSMC_D4 (hiz), 39 PE8/TIM1_CH1N/UART7_TX/FSMC_D5 (hiz), 40 PE9/TIM1_CH1/FSMC_D6 (hiz), 41 PE10/TIM1_CH2N/FSMC_D7 (hiz), 42 PE11/TIM1_CH2/SPI4_NSS/FSMC_D8/LCD_G3 (hiz), 43 PE12/TIM1_CH3N/SPI4_SCK/FSMC_D9/LCD_B4 (hiz), 44 PE13/TIM1_CH3/SPI4_MISO/FSMC_D10/LCD_DE (hiz), 45 PE14/TIM1_CH4/SPI4_MOSI/FSMC_D11/LCD_CLK (hiz), 46 PE15/TIM1_BKIN/FSMC_D12/LCD_R7 (hiz), 97 PE0/TIM4_ETR/UART8_RX/FSMC_NBL0/DCMI_D2 (hiz), 98 PE1/UART8_TX/FSMC_NBL1/DCMI_D3 (hiz)
part F pins: 6 VBAT (power), 10 VSS_5 (power), 11 VDD_5 (power), 12 PH0/OSC_IN (hiz), 13 PH1/OSC_OUT (hiz), 14 NRST (in), 19 VDD_12 (power), 20 VSSA (power), 21 VREF+ (power), 22 VDDA (power), 27 VSS_4 (power), 28 VDD_4 (power), 49 VCAP_1 (power), 50 VDD_1 (power), 73 VCAP_2 (power), 74 VSS_2 (power), 75 VDD_2 (power), 94 BOOT0 (in), 99 VSS_3, 100 VDD_3 (power)

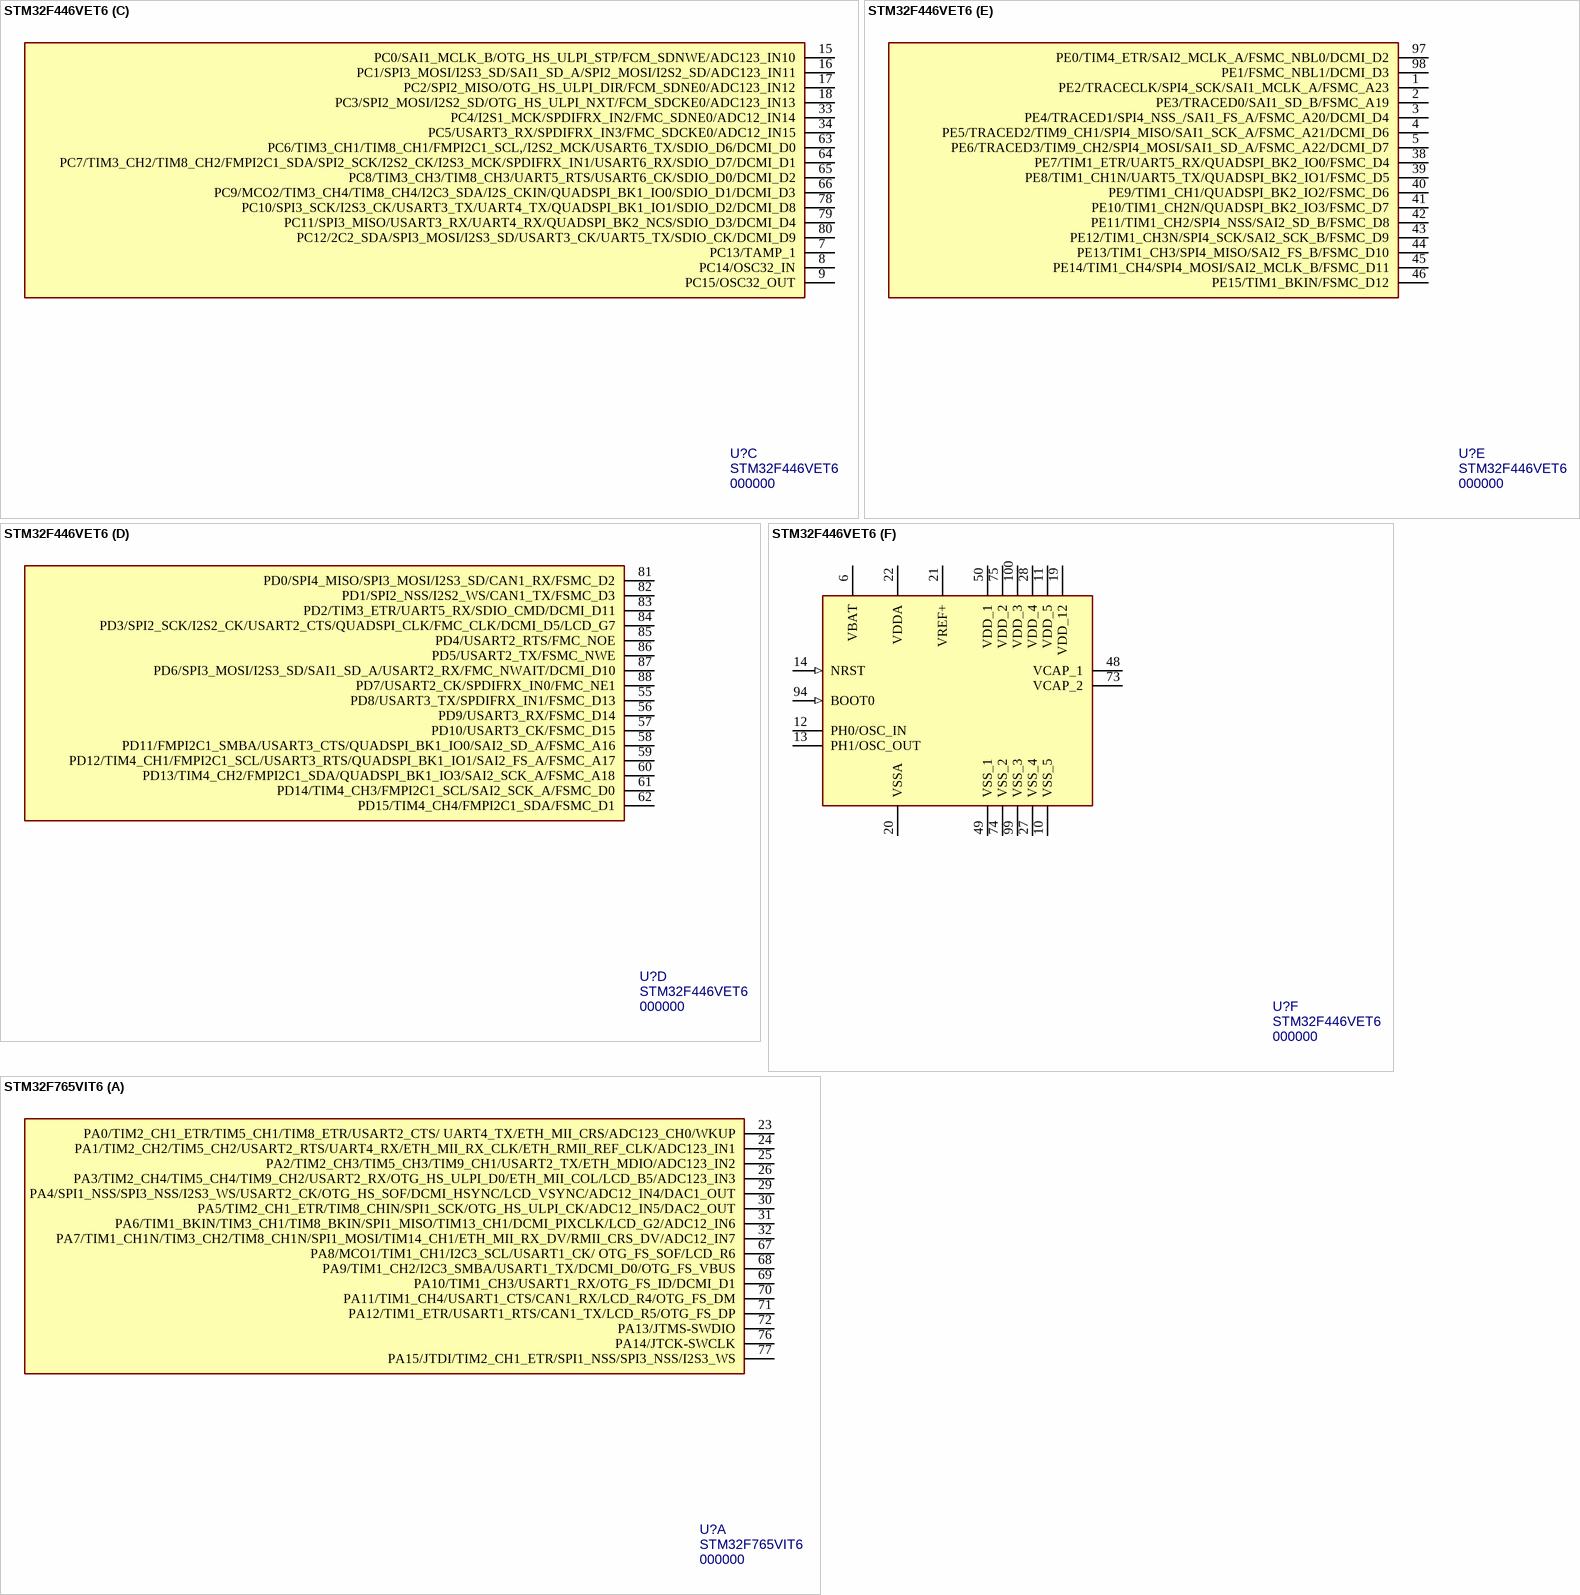
[diagram p9: symbols STM32F446VET6 to STM32F765VIT6]

## STM32F446VET6
designator U?, comment 000000  value STM32F446VET6
ARM Cortex-M4,  512KB Flash, 128+4KB RAM; MF: STMicroelectronics; Package: LQFP100; PN: 000000; ExtraInfo: *; MF PN: STM32F446VET6; Price: 5.39460; Digi-Key PN: 497-15375-ND
footprint LQFP100 (TSQFP, 100-Leads, Body 16.2x16.2mm (max), Pitch 0.50mm, IPC High Density)
part A pins: 23 PA0/TIM2_CH1_ETR/TIM5_CH1/TIM8_ETR/USART2_CTS/ UART4_TX/ADC123_CH0/WKUP (hiz), 24 PA1/TIM2_CH2/TIM5_CH2/USART2_RTS/UART4_RX/QUADSPI_BK1_IO3/SAI2_MCLK_B/ADC123_IN1 (hiz), 25 PA2/TIM2_CH3/TIM5_CH3/TIM9_CH1/USART2_TX/SAI2_SCK_B/ADC123_IN2 (hiz), 26 PA3/TIM2_CH4/TIM5_CH4/TIM9_CH2/SAI1_FS_A/USART2_RX/OTG_HS_ULPI_D0/ADC123_IN3 (hiz), 29 PA4/SPI1_NSS/I2S1_WS/SPI3_NSS/I2S3_WS/USART2_CK/OTG_HS_SOF/DCMI_HSYNC/ADC12_IN4/DAC1_OUT (hiz), 30 PA5/TIM2_CH1_ETR/TIM8_CHIN/SPI1_SCK/I2S1_CK/OTG_HS_ULPI_CK/ADC12_IN5/DAC2_OUT (hiz), 31 PA6/TIM1_BKIN/TIM3_CH1/TIM8_BKIN/SPI1_MISO/I2S2_MCK/TIM13_CH1/DCMI_PIXCLK/ADC12_IN6 (hiz), 32 PA7/TIM1_CH1N/TIM3_CH2/TIM8_CH1N/SPI1_MOSI/I2S1_SD/TIM14_CH1/FMC_SDNWE/ADC12_IN7 (hiz), 67 PA8/MCO1/TIM1_CH1/I2C3_SCL/USART1_CK/ OTG_FS_SOF (hiz), 68 PA9/TIM1_CH2/I2C3_SMBA/SPI2_SCK/I2S2_CK/SAI1_SD_B/USART1_TX/DCMI_D0/OTG_FS_VBUS (hiz), 69 PA10/TIM1_CH3/USART1_RX/OTG_FS_ID/DCMI_D1 (hiz), 70 PA11/TIM1_CH4/USART1_CTS/CAN1_RX/OTG_FS_DM (hiz), 71 PA12/TIM1_ETR/USART1_RTS/CAN1_TX/OTG_FS_DP (hiz), 72 PA13/JTMS-SWDIO (hiz), 76 PA14/JTCK-SWCLK (hiz), 77 PA15/JTDI/TIM2_CH1_ETR/HDMI_CEC/SPI1_NSS//I2S1_WS/SPI3_NSS/I2S3_WS/UART4_RTS (hiz)
part B pins: 35 PB0/TIM1_CH2N/TIM3_CH3/TIM8_CH2N/SPI3_MOSI/I2S3_SD/UART4_CTS/OTG_HS_ULPI_D1/SDIO_D1/ADC12_IN8 (hiz), 36 PB1/TIM1_CH3N/TIM3_CH4/TIM8_CH3N/OTG_HS_ULPI_D2/SDIO_D2/ADC12_IN9 (hiz), 37 PB2-BOOT1/TIM2_CH4/SAI1_SD_A/SPI3_MOSI/I2S3_SD/QUADSPI_CLK/OTG_HS_ULPI_D4/SDIO_CK (hiz), 47 PB10/TIM2_CH3/I2C2_SCL/SPI2_SCK/I2S2_CK/SAI1_SCK_A/USART3_TX/OTG_HS_ULPI_D3 (hiz), 51 PB12/TIM1_BKIN/I2C2_SMBA/SPI2_NSS/I2S2_WS/SAI1_SCK_B/USART3_CK/CAN2_RX/OTG_HS_ULPI_D5//OTG_HS_ID (hiz), 52 PB13/TIM1_CH1N/SPI2_SCK/I2S2_CK/USART3_CTS/CAN2_TX/OTG_HS_ULPI_D6/OTG_HS_VBUS (hiz), 53 PB14/TIM1_CH2N/TIM8_CH2N/SPI2_MISO/USART3_RTS/TIM12_CH1/OTG_HS_DM (hiz), 54 PB15/RTC_REFIN/TIM1_CH3N/TIM8_CH3N/SPI2_MOSI/I2S2_SD/TIM12_CH2/OTG_HS_DP (hiz), 89 PB3/JTDO/TRACESWO/TIM2_CH2/SPI1_SCK//I2S1_CK/SPI3_SCK/I2S3_CK (hiz), 90 PB4/NJTRST/TIM3_CH1/I2C3_SDA/SPI1_MISO/SPI3_MISO/SPI2_NSS/I2S2_WS (hiz), 91 PB5/TIM3_CH2/I2C1_SMBA/SPI1_MOSI//I2S1_SD/SPI3_MOSI/I2S3_SD/CAN2_RX/OTG_HS_ULPI_D7/FMC_SDCKE1/DCMI_D10 (hiz), 92 PB6/TIM4_CH1/HDMI_CEC/I2C1_SCL/USART1_TX/CAN2_TX/QUADSPI_BK1_NCS/FMC_SDNE1/DCMI_D5 (hiz), 93 PB7/TIM4_CH2/I2C1_SDA/USART1_RX/SPDIFRX_IN0/FSMC_NL/DCMI_VSYNC (hiz), 95 PB8/TIM2_CH1_ETR/TIM4_CH3/TIM10_CH1/I2C1_SCL/CAN1_RX/SDIO_D4/DCMI_D6 (hiz), 96 PB9/TIM2_CH2/TIM4_CH4/TIM11_CH1/I2C1_SDA/SPI2_NSS/I2S2_WS/SAI1_FS_B/CAN1_TX/SDIO_D5/DCMI_D7 (hiz)
part C pins: 7 PC13/TAMP_1 (hiz), 8 PC14/OSC32_IN (hiz), 9 PC15/OSC32_OUT (hiz), 15 PC0/SAI1_MCLK_B/OTG_HS_ULPI_STP/FCM_SDNWE/ADC123_IN10 (hiz), 16 PC1/SPI3_MOSI/I2S3_SD/SAI1_SD_A/SPI2_MOSI/I2S2_SD/ADC123_IN11 (hiz), 17 PC2/SPI2_MISO/OTG_HS_ULPI_DIR/FCM_SDNE0/ADC123_IN12 (hiz), 18 PC3/SPI2_MOSI/I2S2_SD/OTG_HS_ULPI_NXT/FCM_SDCKE0/ADC123_IN13 (hiz), 33 PC4/I2S1_MCK/SPDIFRX_IN2/FMC_SDNE0/ADC12_IN14 (hiz), 34 PC5/USART3_RX/SPDIFRX_IN3/FMC_SDCKE0/ADC12_IN15 (hiz), 63 PC6/TIM3_CH1/TIM8_CH1/FMPI2C1_SCL,/I2S2_MCK/USART6_TX/SDIO_D6/DCMI_D0 (hiz), 64 PC7/TIM3_CH2/TIM8_CH2/FMPI2C1_SDA/SPI2_SCK/I2S2_CK/I2S3_MCK/SPDIFRX_IN1/USART6_RX/SDIO_D7/DCMI_D1 (hiz), 65 PC8/TIM3_CH3/TIM8_CH3/UART5_RTS/USART6_CK/SDIO_D0/DCMI_D2 (hiz), 66 PC9/MCO2/TIM3_CH4/TIM8_CH4/I2C3_SDA/I2S_CKIN/QUADSPI_BK1_IO0/SDIO_D1/DCMI_D3 (hiz), 78 PC10/SPI3_SCK/I2S3_CK/USART3_TX/UART4_TX/QUADSPI_BK1_IO1/SDIO_D2/DCMI_D8 (hiz), 79 PC11/SPI3_MISO/USART3_RX/UART4_RX/QUADSPI_BK2_NCS/SDIO_D3/DCMI_D4 (hiz), 80 PC12/2C2_SDA/SPI3_MOSI/I2S3_SD/USART3_CK/UART5_TX/SDIO_CK/DCMI_D9 (hiz)
part D pins: 55 PD8/USART3_TX/SPDIFRX_IN1/FSMC_D13 (hiz), 56 PD9/USART3_RX/FSMC_D14 (hiz), 57 PD10/USART3_CK/FSMC_D15 (hiz), 58 PD11/FMPI2C1_SMBA/USART3_CTS/QUADSPI_BK1_IO0/SAI2_SD_A/FSMC_A16 (hiz), 59 PD12/TIM4_CH1/FMPI2C1_SCL/USART3_RTS/QUADSPI_BK1_IO1/SAI2_FS_A/FSMC_A17 (hiz), 60 PD13/TIM4_CH2/FMPI2C1_SDA/QUADSPI_BK1_IO3/SAI2_SCK_A/FSMC_A18 (hiz), 61 PD14/TIM4_CH3/FMPI2C1_SCL/SAI2_SCK_A/FSMC_D0 (hiz), 62 PD15/TIM4_CH4/FMPI2C1_SDA/FSMC_D1 (hiz), 81 PD0/SPI4_MISO/SPI3_MOSI/I2S3_SD/CAN1_RX/FSMC_D2 (hiz), 82 PD1/SPI2_NSS/I2S2_WS/CAN1_TX/FSMC_D3 (hiz), 83 PD2/TIM3_ETR/UART5_RX/SDIO_CMD/DCMI_D11 (hiz), 84 PD3/SPI2_SCK/I2S2_CK/USART2_CTS/QUADSPI_CLK/FMC_CLK/DCMI_D5/LCD_G7 (hiz), 85 PD4/USART2_RTS/FMC_NOE (hiz), 86 PD5/USART2_TX/FSMC_NWE (hiz), 87 PD6/SPI3_MOSI/I2S3_SD/SAI1_SD_A/USART2_RX/FMC_NWAIT/DCMI_D10 (hiz), 88 PD7/USART2_CK/SPDIFRX_IN0/FMC_NE1 (hiz)
part E pins: 1 PE2/TRACECLK/SPI4_SCK/SAI1_MCLK_A/FSMC_A23 (hiz), 2 PE3/TRACED0/SAI1_SD_B/FSMC_A19 (hiz), 3 PE4/TRACED1/SPI4_NSS_/SAI1_FS_A/FSMC_A20/DCMI_D4 (hiz), 4 PE5/TRACED2/TIM9_CH1/SPI4_MISO/SAI1_SCK_A/FSMC_A21/DCMI_D6 (hiz), 5 PE6/TRACED3/TIM9_CH2/SPI4_MOSI/SAI1_SD_A/FSMC_A22/DCMI_D7 (hiz), 38 PE7/TIM1_ETR/UART5_RX/QUADSPI_BK2_IO0/FSMC_D4 (hiz), 39 PE8/TIM1_CH1N/UART5_TX/QUADSPI_BK2_IO1/FSMC_D5 (hiz), 40 PE9/TIM1_CH1/QUADSPI_BK2_IO2/FSMC_D6 (hiz), 41 PE10/TIM1_CH2N/QUADSPI_BK2_IO3/FSMC_D7 (hiz), 42 PE11/TIM1_CH2/SPI4_NSS/SAI2_SD_B/FSMC_D8 (hiz), 43 PE12/TIM1_CH3N/SPI4_SCK/SAI2_SCK_B/FSMC_D9 (hiz), 44 PE13/TIM1_CH3/SPI4_MISO/SAI2_FS_B/FSMC_D10 (hiz), 45 PE14/TIM1_CH4/SPI4_MOSI/SAI2_MCLK_B/FSMC_D11 (hiz), 46 PE15/TIM1_BKIN/FSMC_D12 (hiz), 97 PE0/TIM4_ETR/SAI2_MCLK_A/FSMC_NBL0/DCMI_D2 (hiz), 98 PE1/FSMC_NBL1/DCMI_D3 (hiz)
part F pins: 6 VBAT (power), 10 VSS_5 (power), 11 VDD_5 (power), 12 PH0/OSC_IN (hiz), 13 PH1/OSC_OUT (hiz), 14 NRST (in), 19 VDD_12 (power), 20 VSSA (power), 21 VREF+ (power), 22 VDDA (power), 27 VSS_4 (power), 28 VDD_4 (power), 48 VCAP_1 (power), 49 VSS_1 (power), 50 VDD_1 (power), 73 VCAP_2 (power), 74 VSS_2 (power), 75 VDD_2 (power), 94 BOOT0 (in), 99 VSS_3, 100 VDD_3 (power)

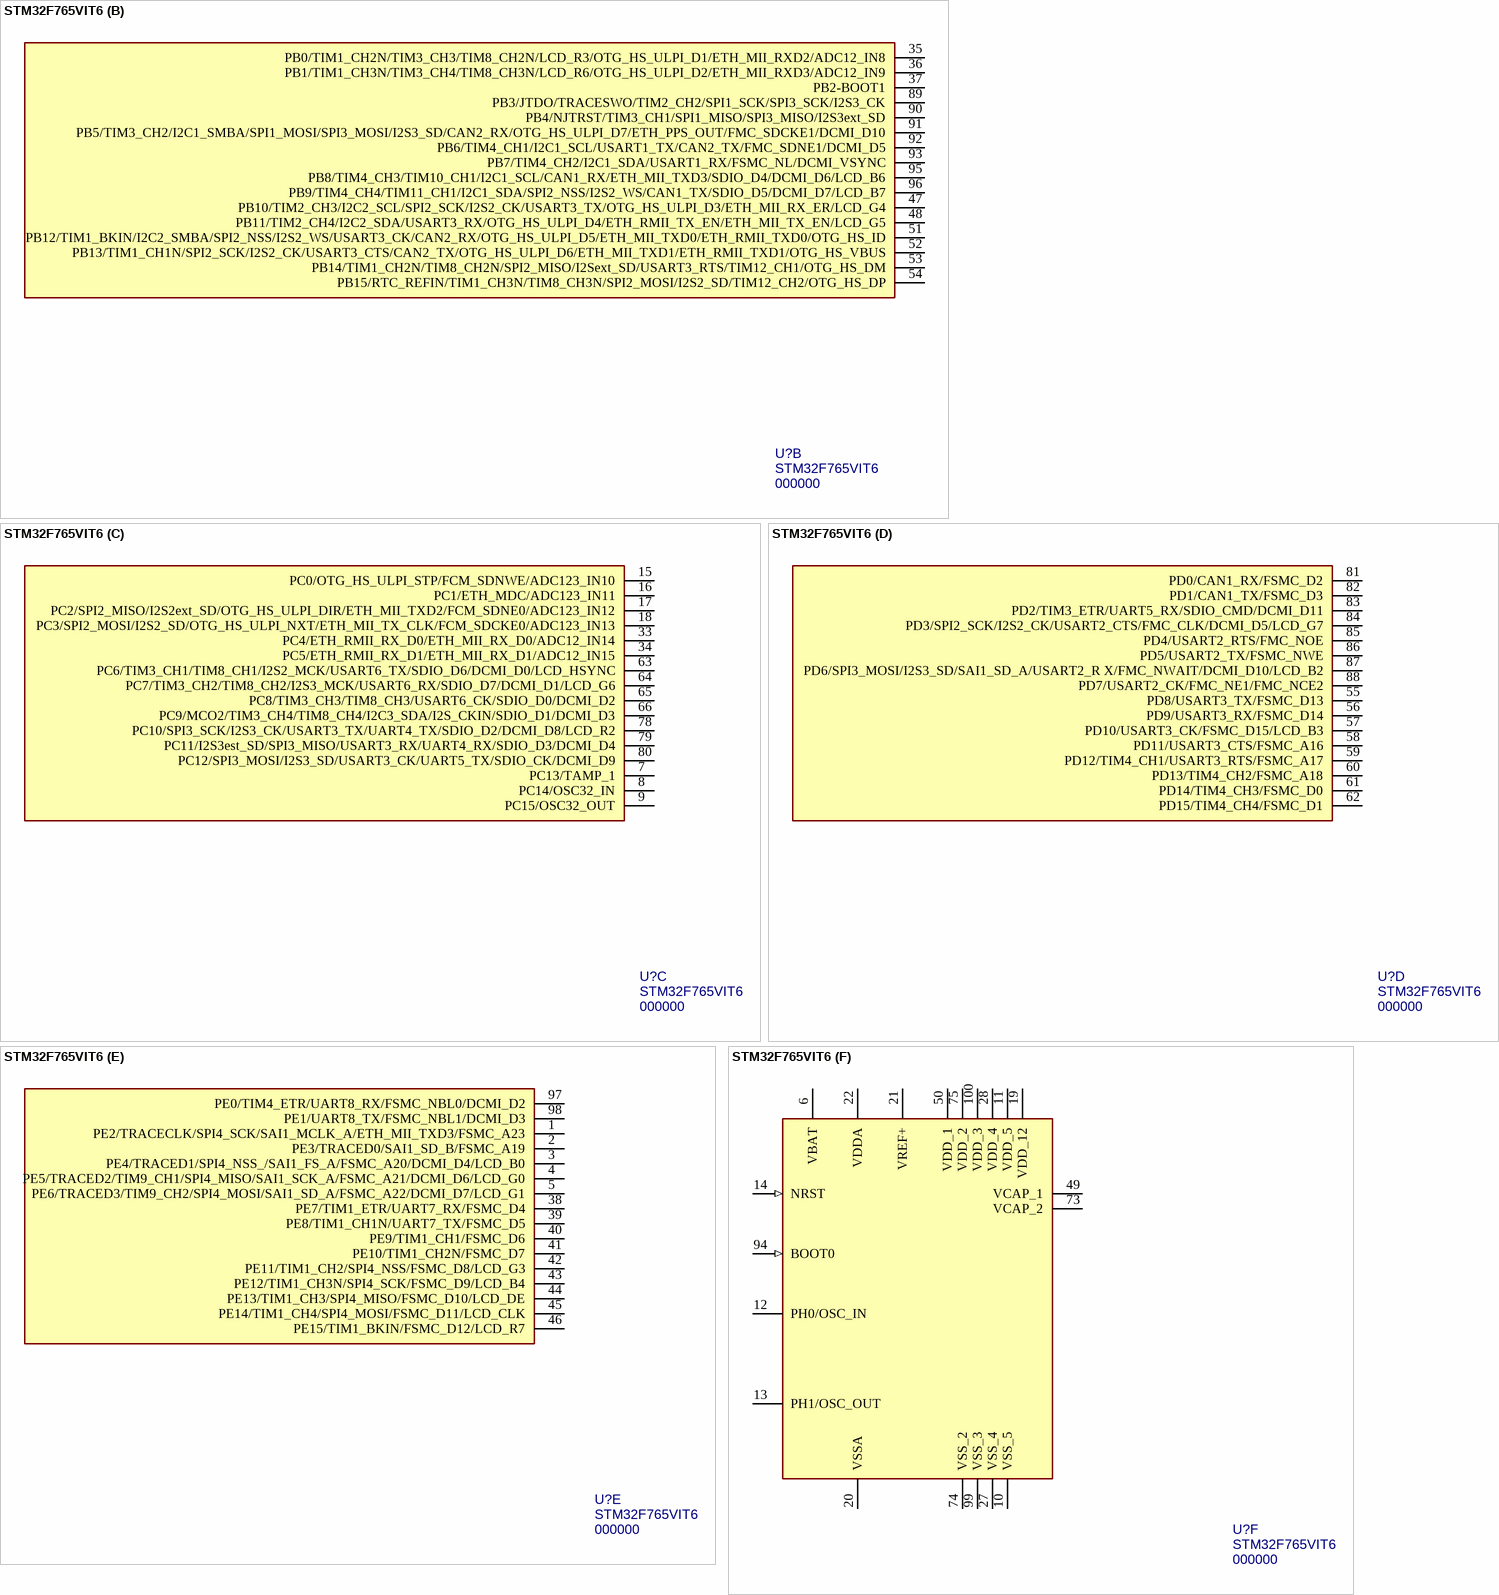
[diagram p10: symbol STM32F765VIT6]

## STM32F765VIT6
designator U?, comment 000000  value STM32F765VIT6
ARM Cortex-M7, 2MB Flash, 512KB RAM; MF: STMicroelectronics; Package: LQFP100; PN: 000000; ExtraInfo: *; MF PN: STM32F765VIT6
footprint LQFP100 (TSQFP, 100-Leads, Body 16.2x16.2mm (max), Pitch 0.50mm, IPC High Density)
part A pins: 23 PA0/TIM2_CH1_ETR/TIM5_CH1/TIM8_ETR/USART2_CTS/ UART4_TX/ETH_MII_CRS/ADC123_CH0/WKUP (hiz), 24 PA1/TIM2_CH2/TIM5_CH2/USART2_RTS/UART4_RX/ETH_MII_RX_CLK/ETH_RMII_REF_CLK/ADC123_IN1 (hiz), 25 PA2/TIM2_CH3/TIM5_CH3/TIM9_CH1/USART2_TX/ETH_MDIO/ADC123_IN2 (hiz), 26 PA3/TIM2_CH4/TIM5_CH4/TIM9_CH2/USART2_RX/OTG_HS_ULPI_D0/ETH_MII_COL/LCD_B5/ADC123_IN3 (hiz), 29 PA4/SPI1_NSS/SPI3_NSS/I2S3_WS/USART2_CK/OTG_HS_SOF/DCMI_HSYNC/LCD_VSYNC/ADC12_IN4/DAC1_OUT (hiz), 30 PA5/TIM2_CH1_ETR/TIM8_CHIN/SPI1_SCK/OTG_HS_ULPI_CK/ADC12_IN5/DAC2_OUT (hiz), 31 PA6/TIM1_BKIN/TIM3_CH1/TIM8_BKIN/SPI1_MISO/TIM13_CH1/DCMI_PIXCLK/LCD_G2/ADC12_IN6 (hiz), 32 PA7/TIM1_CH1N/TIM3_CH2/TIM8_CH1N/SPI1_MOSI/TIM14_CH1/ETH_MII_RX_DV/RMII_CRS_DV/ADC12_IN7 (hiz), 67 PA8/MCO1/TIM1_CH1/I2C3_SCL/USART1_CK/ OTG_FS_SOF/LCD_R6 (hiz), 68 PA9/TIM1_CH2/I2C3_SMBA/USART1_TX/DCMI_D0/OTG_FS_VBUS (hiz), 69 PA10/TIM1_CH3/USART1_RX/OTG_FS_ID/DCMI_D1 (hiz), 70 PA11/TIM1_CH4/USART1_CTS/CAN1_RX/LCD_R4/OTG_FS_DM (hiz), 71 PA12/TIM1_ETR/USART1_RTS/CAN1_TX/LCD_R5/OTG_FS_DP (hiz), 72 PA13/JTMS-SWDIO (hiz), 76 PA14/JTCK-SWCLK (hiz), 77 PA15/JTDI/TIM2_CH1_ETR/SPI1_NSS/SPI3_NSS/I2S3_WS (hiz)
part B pins: 35 PB0/TIM1_CH2N/TIM3_CH3/TIM8_CH2N/LCD_R3/OTG_HS_ULPI_D1/ETH_MII_RXD2/ADC12_IN8 (hiz), 36 PB1/TIM1_CH3N/TIM3_CH4/TIM8_CH3N/LCD_R6/OTG_HS_ULPI_D2/ETH_MII_RXD3/ADC12_IN9 (hiz), 37 PB2-BOOT1 (hiz), 47 PB10/TIM2_CH3/I2C2_SCL/SPI2_SCK/I2S2_CK/USART3_TX/OTG_HS_ULPI_D3/ETH_MII_RX_ER/LCD_G4 (hiz), 48 PB11/TIM2_CH4/I2C2_SDA/USART3_RX/OTG_HS_ULPI_D4/ETH_RMII_TX_EN/ETH_MII_TX_EN/LCD_G5 (hiz), 51 PB12/TIM1_BKIN/I2C2_SMBA/SPI2_NSS/I2S2_WS/USART3_CK/CAN2_RX/OTG_HS_ULPI_D5/ETH_MII_TXD0/ETH_RMII_TXD0/OTG_HS_ID (hiz), 52 PB13/TIM1_CH1N/SPI2_SCK/I2S2_CK/USART3_CTS/CAN2_TX/OTG_HS_ULPI_D6/ETH_MII_TXD1/ETH_RMII_TXD1/OTG_HS_VBUS (hiz), 53 PB14/TIM1_CH2N/TIM8_CH2N/SPI2_MISO/I2Sext_SD/USART3_RTS/TIM12_CH1/OTG_HS_DM (hiz), 54 PB15/RTC_REFIN/TIM1_CH3N/TIM8_CH3N/SPI2_MOSI/I2S2_SD/TIM12_CH2/OTG_HS_DP (hiz), 89 PB3/JTDO/TRACESWO/TIM2_CH2/SPI1_SCK/SPI3_SCK/I2S3_CK (hiz), 90 PB4/NJTRST/TIM3_CH1/SPI1_MISO/SPI3_MISO/I2S3ext_SD (hiz), 91 PB5/TIM3_CH2/I2C1_SMBA/SPI1_MOSI/SPI3_MOSI/I2S3_SD/CAN2_RX/OTG_HS_ULPI_D7/ETH_PPS_OUT/FMC_SDCKE1/DCMI_D10 (hiz), 92 PB6/TIM4_CH1/I2C1_SCL/USART1_TX/CAN2_TX/FMC_SDNE1/DCMI_D5 (hiz), 93 PB7/TIM4_CH2/I2C1_SDA/USART1_RX/FSMC_NL/DCMI_VSYNC (hiz), 95 PB8/TIM4_CH3/TIM10_CH1/I2C1_SCL/CAN1_RX/ETH_MII_TXD3/SDIO_D4/DCMI_D6/LCD_B6 (hiz), 96 PB9/TIM4_CH4/TIM11_CH1/I2C1_SDA/SPI2_NSS/I2S2_WS/CAN1_TX/SDIO_D5/DCMI_D7/LCD_B7 (hiz)
part C pins: 7 PC13/TAMP_1 (hiz), 8 PC14/OSC32_IN (hiz), 9 PC15/OSC32_OUT (hiz), 15 PC0/OTG_HS_ULPI_STP/FCM_SDNWE/ADC123_IN10 (hiz), 16 PC1/ETH_MDC/ADC123_IN11 (hiz), 17 PC2/SPI2_MISO/I2S2ext_SD/OTG_HS_ULPI_DIR/ETH_MII_TXD2/FCM_SDNE0/ADC123_IN12 (hiz), 18 PC3/SPI2_MOSI/I2S2_SD/OTG_HS_ULPI_NXT/ETH_MII_TX_CLK/FCM_SDCKE0/ADC123_IN13 (hiz), 33 PC4/ETH_RMII_RX_D0/ETH_MII_RX_D0/ADC12_IN14 (hiz), 34 PC5/ETH_RMII_RX_D1/ETH_MII_RX_D1/ADC12_IN15 (hiz), 63 PC6/TIM3_CH1/TIM8_CH1/I2S2_MCK/USART6_TX/SDIO_D6/DCMI_D0/LCD_HSYNC (hiz), 64 PC7/TIM3_CH2/TIM8_CH2/I2S3_MCK/USART6_RX/SDIO_D7/DCMI_D1/LCD_G6 (hiz), 65 PC8/TIM3_CH3/TIM8_CH3/USART6_CK/SDIO_D0/DCMI_D2 (hiz), 66 PC9/MCO2/TIM3_CH4/TIM8_CH4/I2C3_SDA/I2S_CKIN/SDIO_D1/DCMI_D3 (hiz), 78 PC10/SPI3_SCK/I2S3_CK/USART3_TX/UART4_TX/SDIO_D2/DCMI_D8/LCD_R2 (hiz), 79 PC11/I2S3est_SD/SPI3_MISO/USART3_RX/UART4_RX/SDIO_D3/DCMI_D4 (hiz), 80 PC12/SPI3_MOSI/I2S3_SD/USART3_CK/UART5_TX/SDIO_CK/DCMI_D9 (hiz)
part D pins: 55 PD8/USART3_TX/FSMC_D13 (hiz), 56 PD9/USART3_RX/FSMC_D14 (hiz), 57 PD10/USART3_CK/FSMC_D15/LCD_B3 (hiz), 58 PD11/USART3_CTS/FSMC_A16 (hiz), 59 PD12/TIM4_CH1/USART3_RTS/FSMC_A17 (hiz), 60 PD13/TIM4_CH2/FSMC_A18 (hiz), 61 PD14/TIM4_CH3/FSMC_D0 (hiz), 62 PD15/TIM4_CH4/FSMC_D1 (hiz), 81 PD0/CAN1_RX/FSMC_D2 (hiz), 82 PD1/CAN1_TX/FSMC_D3 (hiz), 83 PD2/TIM3_ETR/UART5_RX/SDIO_CMD/DCMI_D11 (hiz), 84 PD3/SPI2_SCK/I2S2_CK/USART2_CTS/FMC_CLK/DCMI_D5/LCD_G7 (hiz), 85 PD4/USART2_RTS/FMC_NOE (hiz), 86 PD5/USART2_TX/FSMC_NWE (hiz), 87 PD6/SPI3_MOSI/I2S3_SD/SAI1_SD_A/USART2_R X/FMC_NWAIT/DCMI_D10/LCD_B2 (hiz), 88 PD7/USART2_CK/FMC_NE1/FMC_NCE2 (hiz)
part E pins: 1 PE2/TRACECLK/SPI4_SCK/SAI1_MCLK_A/ETH_MII_TXD3/FSMC_A23 (hiz), 2 PE3/TRACED0/SAI1_SD_B/FSMC_A19 (hiz), 3 PE4/TRACED1/SPI4_NSS_/SAI1_FS_A/FSMC_A20/DCMI_D4/LCD_B0 (hiz), 4 PE5/TRACED2/TIM9_CH1/SPI4_MISO/SAI1_SCK_A/FSMC_A21/DCMI_D6/LCD_G0 (hiz), 5 PE6/TRACED3/TIM9_CH2/SPI4_MOSI/SAI1_SD_A/FSMC_A22/DCMI_D7/LCD_G1 (hiz), 38 PE7/TIM1_ETR/UART7_RX/FSMC_D4 (hiz), 39 PE8/TIM1_CH1N/UART7_TX/FSMC_D5 (hiz), 40 PE9/TIM1_CH1/FSMC_D6 (hiz), 41 PE10/TIM1_CH2N/FSMC_D7 (hiz), 42 PE11/TIM1_CH2/SPI4_NSS/FSMC_D8/LCD_G3 (hiz), 43 PE12/TIM1_CH3N/SPI4_SCK/FSMC_D9/LCD_B4 (hiz), 44 PE13/TIM1_CH3/SPI4_MISO/FSMC_D10/LCD_DE (hiz), 45 PE14/TIM1_CH4/SPI4_MOSI/FSMC_D11/LCD_CLK (hiz), 46 PE15/TIM1_BKIN/FSMC_D12/LCD_R7 (hiz), 97 PE0/TIM4_ETR/UART8_RX/FSMC_NBL0/DCMI_D2 (hiz), 98 PE1/UART8_TX/FSMC_NBL1/DCMI_D3 (hiz)
part F pins: 6 VBAT (power), 10 VSS_5 (power), 11 VDD_5 (power), 12 PH0/OSC_IN (hiz), 13 PH1/OSC_OUT (hiz), 14 NRST (in), 19 VDD_12 (power), 20 VSSA (power), 21 VREF+ (power), 22 VDDA (power), 27 VSS_4 (power), 28 VDD_4 (power), 49 VCAP_1 (power), 50 VDD_1 (power), 73 VCAP_2 (power), 74 VSS_2 (power), 75 VDD_2 (power), 94 BOOT0 (in), 99 VSS_3, 100 VDD_3 (power)

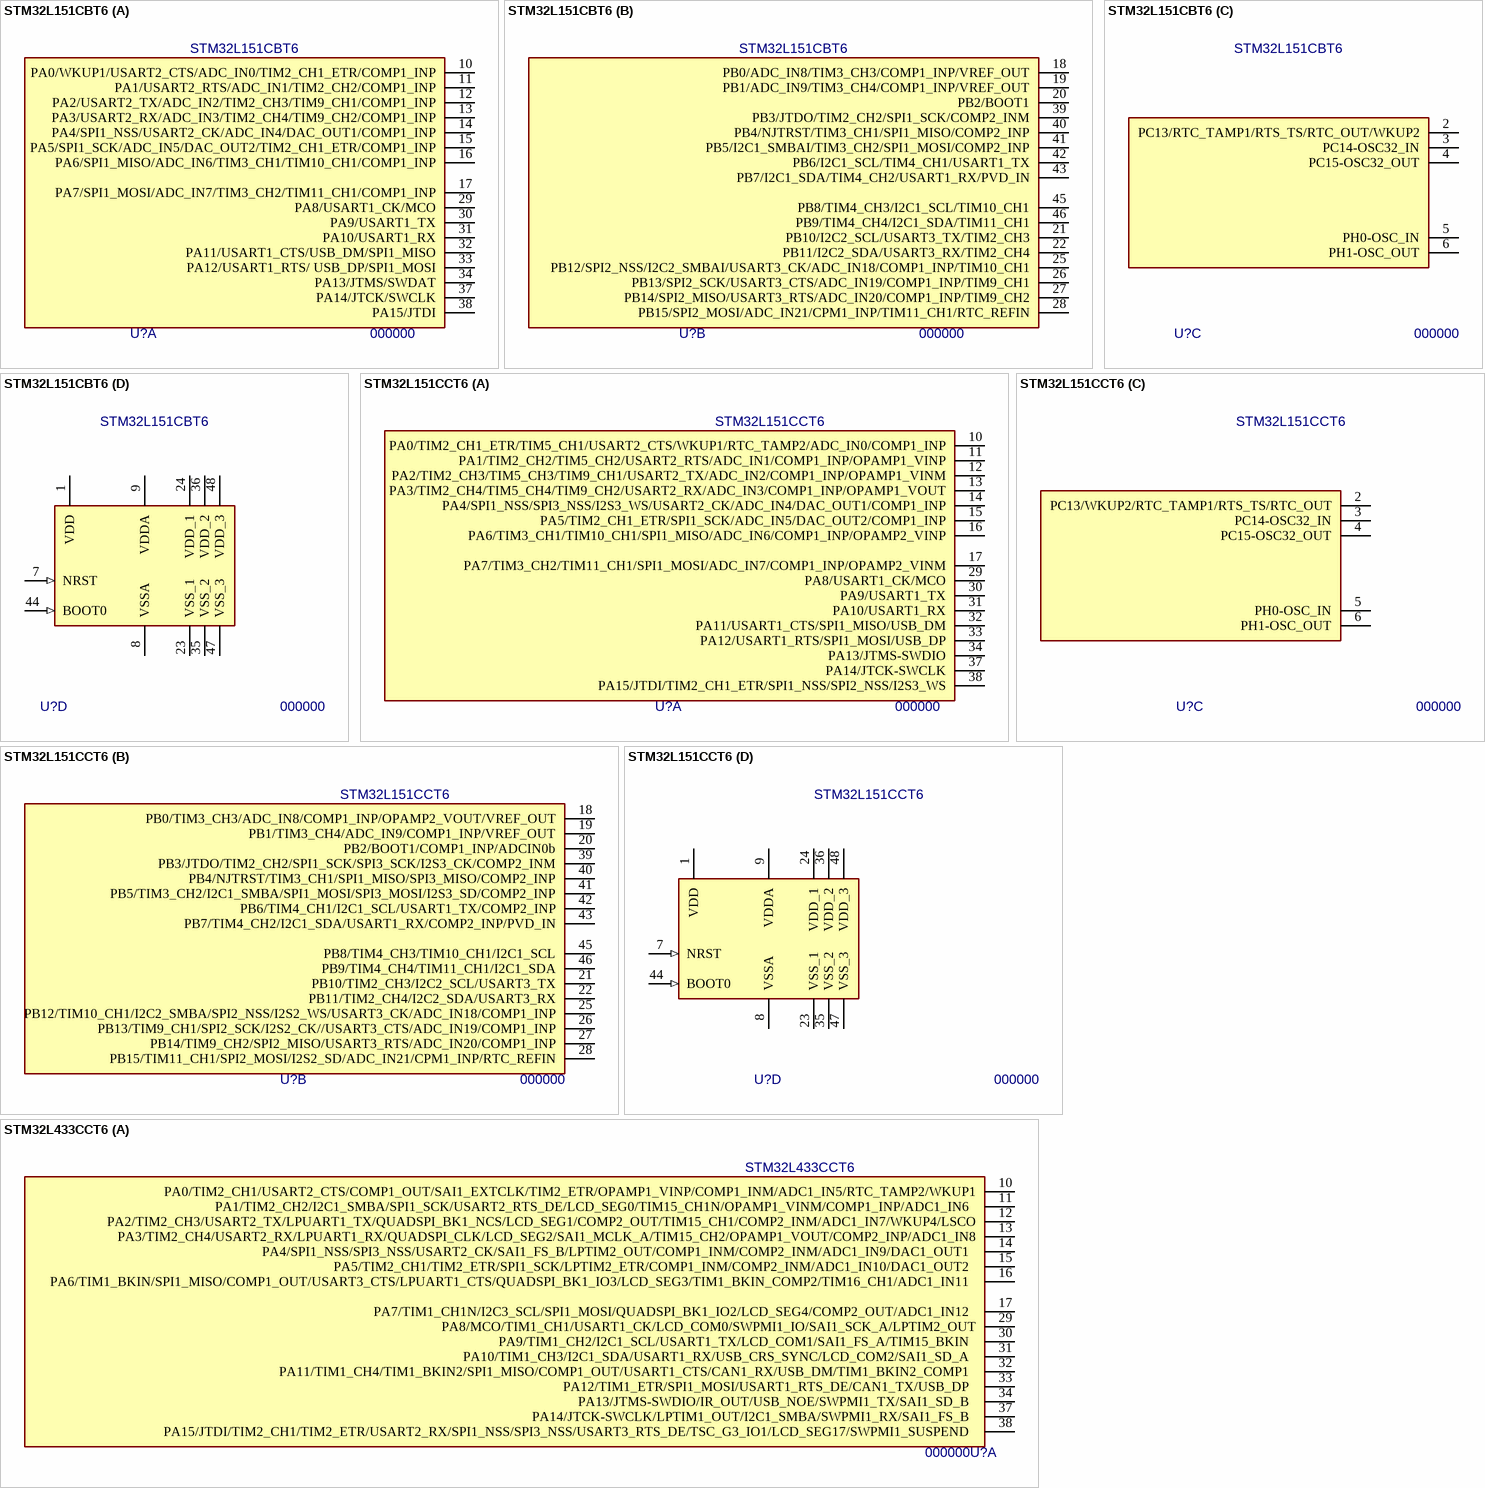
[diagram p11: symbols STM32L151CBT6 to STM32L433CCT6]